# Altium integrated library Actel RTAX.IntLib: 140 symbols (part 12 of 42)
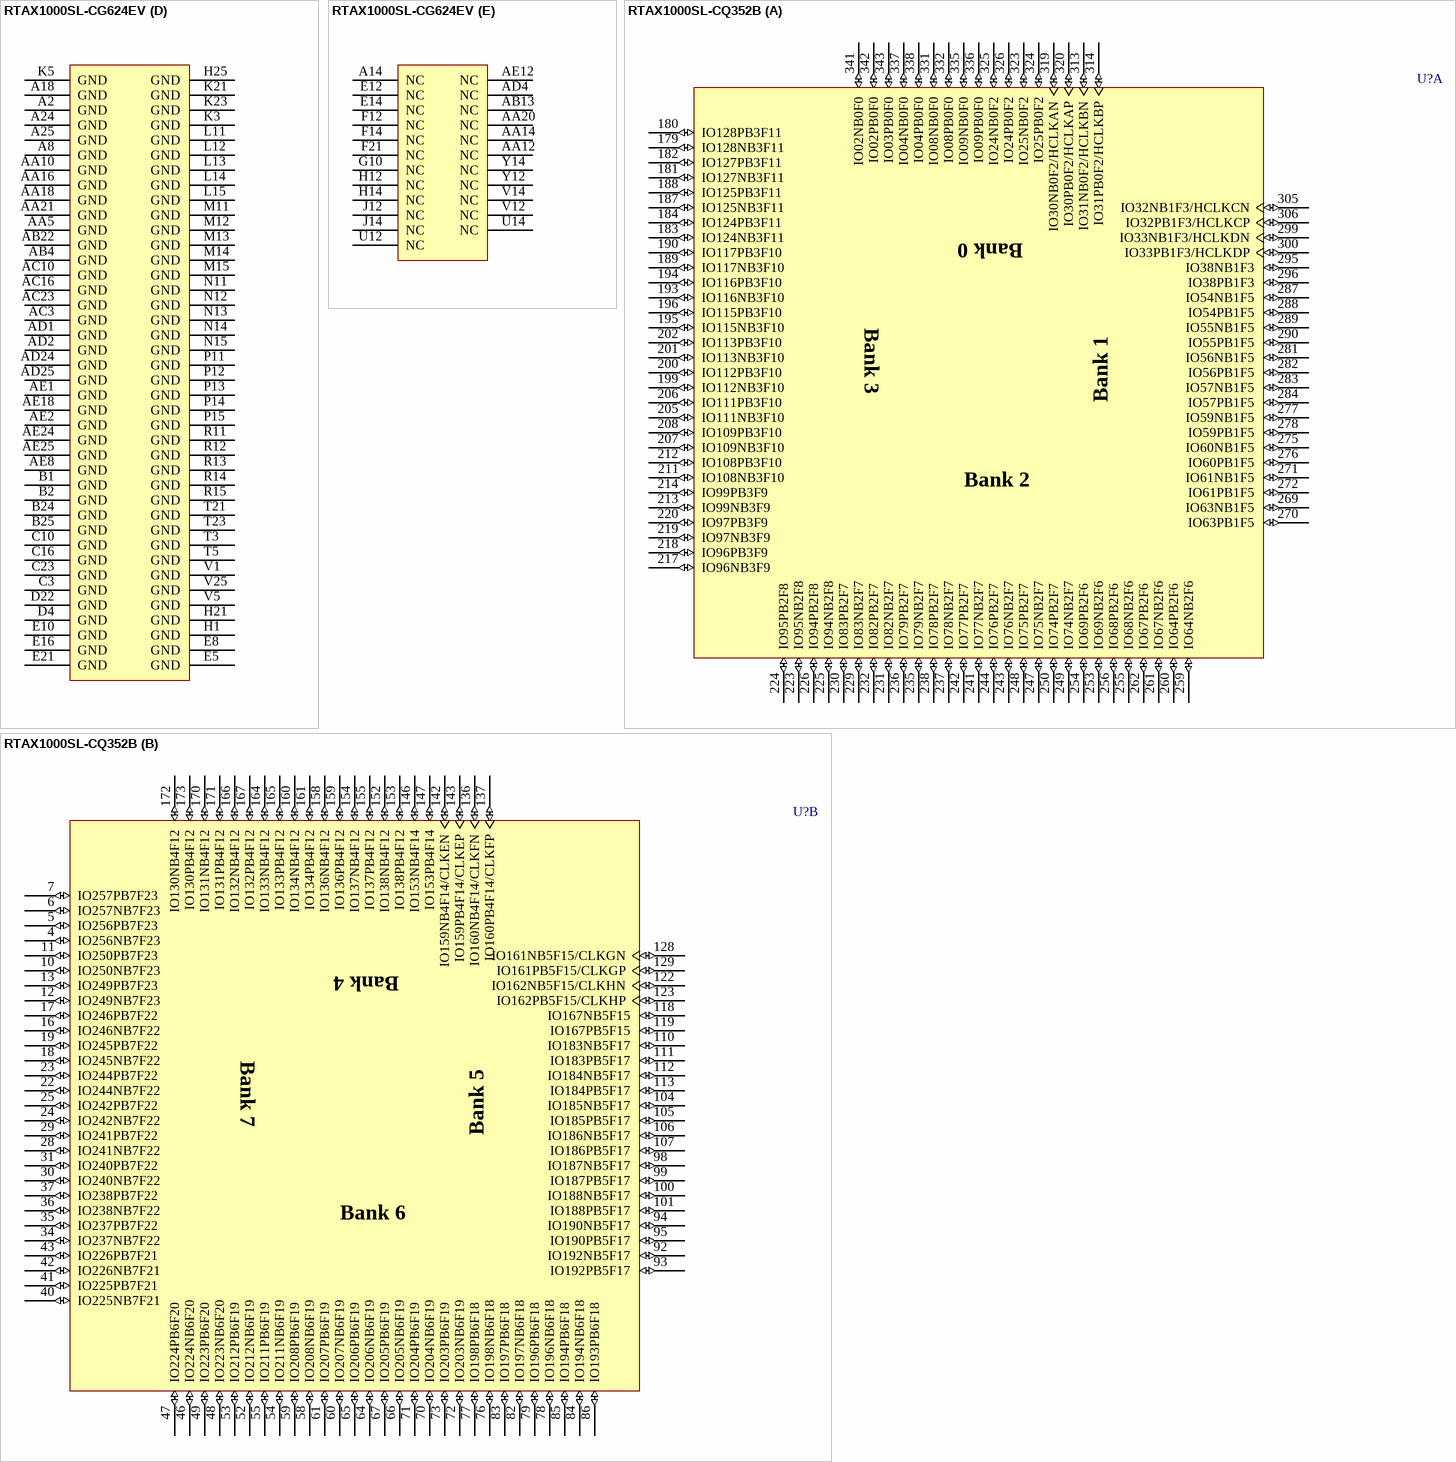
[diagram p410: symbols RTAX1000SL-CG624EV to RTAX1000SL-CQ352B]

## RTAX1000SL-CG624EV
designator U?
RTAX-SL RadTolerant FPGA, 1 Million Equivalent System Gates, Low-Power, 624-Pin CCGA, Speed Grade Standard, Class V; DatasheetVersion: v5.4, May-2009; PackageVersion: ver11.2, Nov-2009; PackageReference: CG624; PackageDescription: 624-Pin Ceramic Column Grid Array 1.27 mm Pitch; Code_JEDEC: MO-158-BE-01; ComponentLink1Description: Manufacturer URL; ComponentLink1URL: http://www.actel.com/; ComponentLink2Description: RTAX-S/SL RadTolerant Datasheet; ComponentLink2URL: http://www.actel.com/documents/RTAXS_DS.pdf; ComponentLink3Description: Package Mechanical Drawings; ComponentLink3URL: http://www.actel.com/documents/PckgMechDrwngs.pdf; ComponentLink4Description: RTAX-S/SL RadTolerant Documents; ComponentLink4URL: http://www.actel.com/products/milaero/rtaxs/docs.aspx
footprint CG624 (CGA, 624-Leads, Body 32.5x32.5mm, Pitch 1.27mm)
part A pins: A4 IO16PB0F1 (io), A5 IO16NB0F1 (io), A6 IO13PB0F1 (io), A7 IO13NB0F1 (io), A9 IO17NB0F1 (io), A10 IO21PB0F1 (io), A11 IO21NB0F1 (io), A15 IO43PB1F4 (io), A16 IO43NB1F4 (io), A17 IO47NB1F4 (io), A19 IO44PB1F4 (io), A20 IO44NB1F4 (io), A21 IO51PB1F4 (io), A22 IO51NB1F4 (io), AA23 IO124PB3F11 (io), AA24 IO116NB3F10 (io), AA25 IO117PB3F10 (io), AB24 IO107NB3F10 (io), AB25 IO117NB3F10 (io), B4 IO12PB0F1 (io), B5 IO12NB0F1 (io), B6 IO07PB0F0 (io), B7 IO15PB0F1 (io), B8 IO27PB0F2 (io), B9 IO17PB0F1 (io), B10 IO20PB0F1 (io), B11 IO20NB0F1 (io), B12 IO25PB0F2 (io), B13 IO33PB1F3/HCLKDP (io), B14 IO33NB1F3/HCLKDN (io), B16 IO45PB1F4 (io), B17 IO45NB1F4 (io), B18 IO35PB1F3 (io), B19 IO49PB1F4 (io), B20 IO49NB1F4 (io), B21 IO53PB1F4 (io), B22 IO53NB1F4 (io), C7 IO09PB0F0 (io), C8 IO14PB0F1 (io), C9 IO14NB0F1 (io), C11 IO27NB0F2 (io), C12 IO31PB0F2/HCLKBP (io), C13 IO31NB0F2/HCLKBN (io), C14 IO39PB1F3 (io), C17 IO35NB1F3 (io), C18 IO48PB1F4 (io), C19 IO48NB1F4 (io), C20 IO52PB1F4 (io), C21 IO52NB1F4 (io), D7 IO24NB0F2 (io), D8 IO04PB0F0 (io), D9 IO11PB0F0 (io), D10 IO11NB0F0 (io), D11 IO18PB0F1 (io), D12 IO18NB0F1 (io), D14 IO39NB1F3 (io), D15 IO40PB1F3 (io), D16 IO40NB1F3 (io), D17 IO55PB1F5 (io), D18 IO55NB1F5 (io), D19 IO60PB1F5 (io), D20 IO60NB1F5 (io), D24 IO70PB2F6 (io), D25 IO86PB2F8 (io), E7 IO24PB0F2 (io), E9 IO04NB0F0 (io), E11 IO23NB0F2 (io), E15 IO38NB1F3 (io), E17 IO58NB1F5 (io), E18 IO62NB1F5 (io), E23 IO67PB2F6 (io), E24 IO70NB2F6 (io), E25 IO86NB2F8 (io), F7 IO00PB0F0 (io), F8 IO00NB0F0 (io), F9 IO08PB0F0 (io), F10 IO08NB0F0 (io), F11 IO23PB0F2 (io), F15 IO38PB1F3 (io), F16 IO41NB1F4 (io), F17 IO58PB1F5 (io), F18 IO62PB1F5 (io), F19 IO56PB1F5 (io), F20 IO56NB1F5 (io), F23 IO67NB2F6 (io), F24 IO88PB2F8 (io), F25 IO90PB2F8 (io), G6 IO02PB0F0 (io), G7 IO02NB0F0 (io), G8 IO06PB0F0 (io), G9 IO06NB0F0 (io), G11 IO26PB0F2 (io), G12 IO30PB0F2/HCLKAP (io), G13 IO30NB0F2/HCLKAN (io), G14 IO32PB1F3/HCLKCP (io), G15 IO32NB1F3/HCLKCN (io), G16 IO34NB1F3 (io), G17 IO46NB1F4 (io), G18 IO63PB1F5 (io), G19 IO63NB1F5 (io), G20 IO42PB1F4 (io), G21 IO42NB1F4 (io), G22 IO64PB2F6 (io), G23 IO71PB2F6 (io), G24 IO88NB2F8 (io), G25 IO90NB2F8 (io), H7 IO10PB0F0 (io), H8 IO10NB0F0 (io), H9 IO22PB0F2 (io), H10 IO22NB0F2 (io), H11 IO26NB0F2 (io), H13 IO37NB1F3 (io), H15 IO36PB1F3 (io), H16 IO34PB1F3 (io), H17 IO46PB1F4 (io), H18 IO36NB1F3 (io), H19 IO50PB1F4 (io), H20 IO50NB1F4 (io), H22 IO74PB2F7 (io), H23 IO71NB2F6 (io), H24 IO92PB2F8 (io), J7 IO29PB0F2 (io), J8 IO29NB0F2 (io), J13 IO28NB0F2 (io), J18 IO54NB1F5 (io), J19 IO54PB1F5 (io), J20 IO65PB2F6 (io), J21 IO65NB2F6 (io), J22 IO74NB2F7 (io), J23 IO93PB2F8 (io), J24 IO92NB2F8 (io), J25 IO89NB2F8 (io), K13 IO28PB0F2 (io), K18 IO68PB2F6 (io), K19 IO72PB2F6 (io), K20 IO66PB2F6 (io), K22 IO77PB2F7 (io), K24 IO87PB2F8 (io), K25 IO91PB2F8 (io), L18 IO68NB2F6 (io), L19 IO72NB2F6 (io), L20 IO80PB2F7 (io), L21 IO80NB2F7 (io), L22 IO77NB2F7 (io), L23 IO66NB2F6 (io), L24 IO87NB2F8 (io), L25 IO91NB2F8 (io), M17 IO64NB2F6 (io), M18 IO78PB2F7 (io), M19 IO78NB2F7 (io), M20 IO84NB2F7 (io), M21 IO84PB2F7 (io), M22 IO83PB2F7 (io), M23 IO75PB2F7 (io), M24 IO94PB2F8 (io), M25 IO95PB2F8 (io), N16 IO76PB2F7 (io), N17 IO76NB2F7 (io), N18 IO79PB2F7 (io), N19 IO79NB2F7 (io), N20 IO97NB3F9 (io), N22 IO83NB2F7 (io), N23 IO75NB2F7 (io), N24 IO94NB2F8 (io), N25 IO95NB2F8 (io), P17 IO82PB2F7 (io), P18 IO82NB2F7 (io), P19 IO98PB3F9 (io), P20 IO98NB3F9 (io), P21 IO99NB3F9 (io), P22 IO101PB3F9 (io), P23 IO105PB3F9 (io), P24 IO97PB3F9 (io), P25 IO108PB3F10 (io), R18 IO96PB3F9 (io), R19 IO106NB3F9 (io), R20 IO106PB3F9 (io), R21 IO118PB3F11 (io), R22 IO101NB3F9 (io), R23 IO105NB3F9 (io), R24 IO112PB3F10 (io), R25 IO108NB3F10 (io), T18 IO96NB3F9 (io), T19 IO102PB3F9 (io), T20 IO118NB3F11 (io), T22 IO100NB3F9 (io), T24 IO112NB3F10 (io), T25 IO109PB3F10 (io), U19 IO102NB3F9 (io), U20 IO104PB3F9 (io), U21 IO126PB3F11 (io), U22 IO122PB3F11 (io), U23 IO110PB3F10 (io), U24 IO110NB3F10 (io), U25 IO109NB3F10 (io), V20 IO104NB3F9 (io), V21 IO126NB3F11 (io), V22 IO122NB3F11 (io), V23 IO114NB3F10 (io), V24 IO114PB3F10 (io), W22 IO120NB3F11 (io), W23 IO120PB3F11 (io), W24 IO100PB3F9 (io), W25 IO113PB3F10 (io), Y21 IO128PB3F11 (io), Y22 IO128NB3F11 (io), Y23 IO124NB3F11 (io), Y24 IO116PB3F10 (io), Y25 IO113NB3F10 (io)
part B pins: AA1 IO204NB6F19 (io), AA2 IO209NB6F19 (io), AA3 IO194PB6F18 (io), AA6 IO168PB5F15 (io), AA8 IO177NB5F16 (io), AA9 IO187NB5F17 (io), AA11 IO173NB5F16 (io), AA17 IO137PB4F12 (io), AA19 IO139NB4F13 (io), AB1 IO204PB6F19 (io), AB2 IO209PB6F19 (io), AB6 IO168NB5F15 (io), AB7 IO192NB5F17 (io), AB8 IO172NB5F16 (io), AB9 IO184NB5F17 (io), AB10 IO174NB5F16 (io), AB11 IO174PB5F16 (io), AB14 IO156NB4F14 (io), AB15 IO156PB4F14 (io), AB16 IO152NB4F14 (io), AB17 IO143NB4F13 (io), AB18 IO138PB4F12 (io), AB19 IO138NB4F12 (io), AC5 IO191NB5F17 (io), AC6 IO191PB5F17 (io), AC7 IO192PB5F17 (io), AC8 IO172PB5F16 (io), AC9 IO175NB5F16 (io), AC12 IO162NB5F15/CLKHN (io), AC13 IO160NB4F14/CLKFN (io), AC14 IO149PB4F13 (io), AC15 IO158NB4F14 (io), AC17 IO143PB4F13 (io), AC18 IO157PB4F14 (io), AC19 IO158PB4F14 (io), AC20 IO140NB4F13 (io), AC21 IO140PB4F13 (io), AD5 IO189NB5F17 (io), AD6 IO189PB5F17 (io), AD7 IO183NB5F17 (io), AD8 IO183PB5F17 (io), AD9 IO181NB5F17 (io), AD10 IO181PB5F17 (io), AD12 IO162PB5F15/CLKHP (io), AD13 IO160PB4F14/CLKFP (io), AD14 IO149NB4F13 (io), AD15 IO147NB4F13 (io), AD16 IO147PB4F13 (io), AD17 IO141NB4F13 (io), AD18 IO141PB4F13 (io), AD19 IO146NB4F13 (io), AD20 IO146PB4F13 (io), AD21 IO142NB4F13 (io), AD22 IO142PB4F13 (io), AE4 IO186NB5F17 (io), AE5 IO186PB5F17 (io), AE6 IO185NB5F17 (io), AE7 IO185PB5F17 (io), AE9 IO175PB5F16 (io), AE10 IO182NB5F17 (io), AE11 IO182PB5F17 (io), AE14 IO157NB4F14 (io), AE15 IO145NB4F13 (io), AE16 IO145PB4F13 (io), AE19 IO150NB4F13 (io), AE20 IO150PB4F13 (io), AE21 IO148PB4F13 (io), AE22 IO144PB4F13 (io), D1 IO234NB7F21 (io), D2 IO248NB7F23 (io), E1 IO234PB7F21 (io), E2 IO231NB7F21 (io), E3 IO246PB7F22 (io), F1 IO232NB7F21 (io), F2 IO231PB7F21 (io), F3 IO246NB7F22 (io), G1 IO232PB7F21 (io), G2 IO226PB7F21 (io), G3 IO249PB7F23 (io), G4 IO249NB7F23 (io), H2 IO227PB7F21 (io), H3 IO227NB7F21 (io), H4 IO253NB7F23 (io), H5 IO257NB7F23 (io), H6 IO257PB7F23 (io), J1 IO225PB7F21 (io), J2 IO225NB7F21 (io), J3 IO242NB7F22 (io), J4 IO253PB7F23 (io), J5 IO255PB7F23 (io), J6 IO255NB7F23 (io), K1 IO230NB7F21 (io), K2 IO229NB7F21 (io), K4 IO235NB7F21 (io), K6 IO247PB7F23 (io), K7 IO247NB7F23 (io), K8 IO245NB7F22 (io), L1 IO230PB7F21 (io), L2 IO229PB7F21 (io), L3 IO233NB7F21 (io), L4 IO235PB7F21 (io), L5 IO239PB7F22 (io), L6 IO239NB7F22 (io), L7 IO241NB7F22 (io), L8 IO245PB7F22 (io), M1 IO211NB6F19 (io), M2 IO223NB6F20 (io), M3 IO233PB7F21 (io), M4 IO240NB7F22 (io), M5 IO238NB7F22 (io), M6 IO236NB7F22 (io), M7 IO241PB7F22 (io), M8 IO243PB7F22 (io), M9 IO243NB7F22 (io), N1 IO211PB6F19 (io), N2 IO223PB6F20 (io), N3 IO224NB6F20 (io), N4 IO221NB6F20 (io), N6 IO244PB7F22 (io), N7 IO237PB7F22 (io), N8 IO237NB7F22 (io), N9 IO251PB7F23 (io), N10 IO251NB7F23 (io), P1 IO212NB6F19 (io), P2 IO220NB6F20 (io), P3 IO224PB6F20 (io), P4 IO221PB6F20 (io), P5 IO210NB6F19 (io), P6 IO198NB6F18 (io), P7 IO217NB6F20 (io), P8 IO216NB6F20 (io), P9 IO244NB7F22 (io), R1 IO212PB6F19 (io), R2 IO220PB6F20 (io), R3 IO216PB6F20 (io), R4 IO219NB6F20 (io), R5 IO197NB6F18 (io), R6 IO205NB6F19 (io), R7 IO217PB6F20 (io), R8 IO213NB6F19 (io), T1 IO208NB6F19 (io), T2 IO207NB6F19 (io), T4 IO219PB6F20 (io), T6 IO205PB6F19 (io), T7 IO201NB6F18 (io), T8 IO213PB6F19 (io), T13 IO164PB5F15 (io), U1 IO208PB6F19 (io), U2 IO207PB6F19 (io), U3 IO197PB6F18 (io), U4 IO215NB6F20 (io), U5 IO193PB6F18 (io), U6 IO193NB6F18 (io), U7 IO201PB6F18 (io), U8 IO188NB5F17 (io), U13 IO165NB5F15 (io), U18 IO139PB4F13 (io), V2 IO202NB6F18 (io), V3 IO200NB6F18 (io), V4 IO215PB6F20 (io), V6 IO195NB6F18 (io), V7 IO169PB5F15 (io), V8 IO169NB5F15 (io), V9 IO163NB5F15 (io), V10 IO163PB5F15 (io), V11 IO164NB5F15 (io), V13 IO165PB5F15 (io), V15 IO155NB4F14 (io), V16 IO155PB4F14 (io), V17 IO151NB4F13 (io), V18 IO135PB4F12 (io), V19 IO131NB4F12 (io), W1 IO206NB6F19 (io), W2 IO203NB6F19 (io), W3 IO200PB6F18 (io), W4 IO195PB6F18 (io), W5 IO199PB6F18 (io), W6 IO178PB5F16 (io), W7 IO180PB5F16 (io), W8 IO171NB5F16 (io), W9 IO171PB5F16 (io), W10 IO179PB5F16 (io), W11 IO167NB5F15 (io), W12 IO167PB5F15 (io), W13 IO161NB5F15/CLKGN (io), W14 IO159NB4F14/CLKEN (io), W15 IO159PB4F14/CLKEP (io), W16 IO152PB4F14 (io), W17 IO151PB4F13 (io), W18 IO135NB4F12 (io), W19 IO131PB4F12 (io), W20 IO129NB4F12 (io), Y1 IO206PB6F19 (io), Y2 IO203PB6F19 (io), Y3 IO194NB6F18 (io), Y5 IO199NB6F18 (io), Y6 IO178NB5F16 (io), Y7 IO180NB5F16 (io), Y8 IO177PB5F16 (io), Y9 IO187PB5F17 (io), Y10 IO179NB5F16 (io), Y11 IO173PB5F16 (io), Y13 IO161PB5F15/CLKGP (io), Y15 IO153NB4F14 (io), Y16 IO153PB4F14 (io), Y17 IO137NB4F12 (io), Y18 IO133NB4F12 (io), Y19 IO133PB4F12 (io), Y20 IO129PB4F12 (io)
part C pins: A3 VCCIB0 (power), A12 VCCDA (power), A13 PRB (out), A23 VCCIB1 (power), AA4 VCCIB6 (power), AA7 VCCDA (power), AA13 VCCDA (power), AA15 VCCDA (power), AA22 VCCIB3 (power), AB3 VCCIB6 (power), AB5 VCCIB5 (power), AB12 PRC (out), AB20 VCCA (power), AB21 VCCIB4 (power), AB23 VCCIB3 (power), AC1 VCCIB6 (power), AC2 VCCIB6 (power), AC4 VCCIB5 (power), AC11 VCCDA (power), AC22 VCCIB4 (power), AC24 VCCIB3 (power), AC25 VCCIB3 (power), AD3 VCCIB5 (power), AD11 VCCDA (power), AD23 VCCIB4 (power), AE3 VCCIB5 (power), AE13 PRD (out), AE17 VCCDA (power), AE23 VCCIB4 (power), B3 VCCIB0 (power), B15 VCCDA (power), B23 VCCIB1 (power), C1 VCCIB7 (power), C2 VCCIB7 (power), C4 VCCIB0 (power), C5 TDI (in), C6 VCCDA (power), C15 VCCDA (power), C22 VCCIB1 (power), C24 VCCIB2 (power), C25 VCCIB2 (power), D3 VCCIB7 (power), D5 VCCIB0 (power), D6 TMS (in), D13 VCCDA (power), D21 VCCIB1 (power), D23 VCCIB2 (power), E4 VCCIB7 (power), E6 ~{TRST} (in), E13 VCCDA (power), E19 VCCDA (power), E20 VPUMP (power), E22 VCCIB2 (power), F4 VCCA (power), F5 TCK (in), F6 TDO (hiz), F13 PRA (out), F22 VCCA (power), G5 VCCDA (power), J9 VCCA (power), J10 VCCIB0 (power), J11 VCCIB0 (power), J15 VCCIB1 (power), J16 VCCIB1 (power), J17 VCCA (power), K9 VCCIB7 (power), K10 VCCA (power), K11 VCCA (power), K12 VCCIB0 (power), K14 VCCIB1 (power), K15 VCCA (power), K16 VCCA (power), K17 VCCIB2 (power), L9 VCCIB7 (power), L10 VCCA (power), L16 VCCA (power), L17 VCCIB2 (power), M10 VCCIB7 (power), M16 VCCIB2 (power), N5 VCCDA (power), N21 VCCDA (power), P10 VCCIB6 (power), P16 VCCIB3 (power), R9 VCCIB6 (power), R10 VCCA (power), R16 VCCA (power), R17 VCCIB3 (power), T9 VCCIB6 (power), T10 VCCA (power), T11 VCCA (power), T12 VCCIB5 (power), T14 VCCIB4 (power), T15 VCCA (power), T16 VCCA (power), T17 VCCIB3 (power), U9 VCCA (power), U10 VCCIB5 (power), U11 VCCIB5 (power), U15 VCCIB4 (power), U16 VCCIB4 (power), U17 VCCA (power), W21 VCCDA (power), Y4 VCCA (power)
part D pins: A2 GND (power), A8 GND (power), A18 GND (power), A24 GND (power), A25 GND (power), AA5 GND (power), AA10 GND (power), AA16 GND (power), AA18 GND (power), AA21 GND (power), AB4 GND (power), AB22 GND (power), AC3 GND (power), AC10 GND (power), AC16 GND (power), AC23 GND (power), AD1 GND (power), AD2 GND (power), AD24 GND (power), AD25 GND (power), AE1 GND (power), AE2 GND (power), AE8 GND (power), AE18 GND (power), AE24 GND (power), AE25 GND (power), B1 GND (power), B2 GND (power), B24 GND (power), B25 GND (power), C3 GND (power), C10 GND (power), C16 GND (power), C23 GND (power), D4 GND (power), D22 GND (power), E5 GND (power), E8 GND (power), E10 GND (power), E16 GND (power), E21 GND (power), H1 GND (power), H21 GND (power), H25 GND (power), K3 GND (power), K5 GND (power), K21 GND (power), K23 GND (power), L11 GND (power), L12 GND (power), L13 GND (power), L14 GND (power), L15 GND (power), M11 GND (power), M12 GND (power), M13 GND (power), M14 GND (power), M15 GND (power), N11 GND (power), N12 GND (power), N13 GND (power), N14 GND (power), N15 GND (power), P11 GND (power), P12 GND (power), P13 GND (power), P14 GND (power), P15 GND (power), R11 GND (power), R12 GND (power), R13 GND (power), R14 GND (power), R15 GND (power), T3 GND (power), T5 GND (power), T21 GND (power), T23 GND (power), V1 GND (power), V5 GND (power), V25 GND (power)
part E pins: A14 NC, AA12 NC, AA14 NC, AA20 NC, AB13 NC, AD4 NC, AE12 NC, E12 NC, E14 NC, F12 NC, F14 NC, F21 NC, G10 NC, H12 NC, H14 NC, J12 NC, J14 NC, U12 NC, U14 NC, V12 NC, V14 NC, Y12 NC, Y14 NC
part A text: Bank 0; Bank 3; Bank 1; Bank 2
part B text: Bank 4; Bank 7; Bank 5; Bank 6

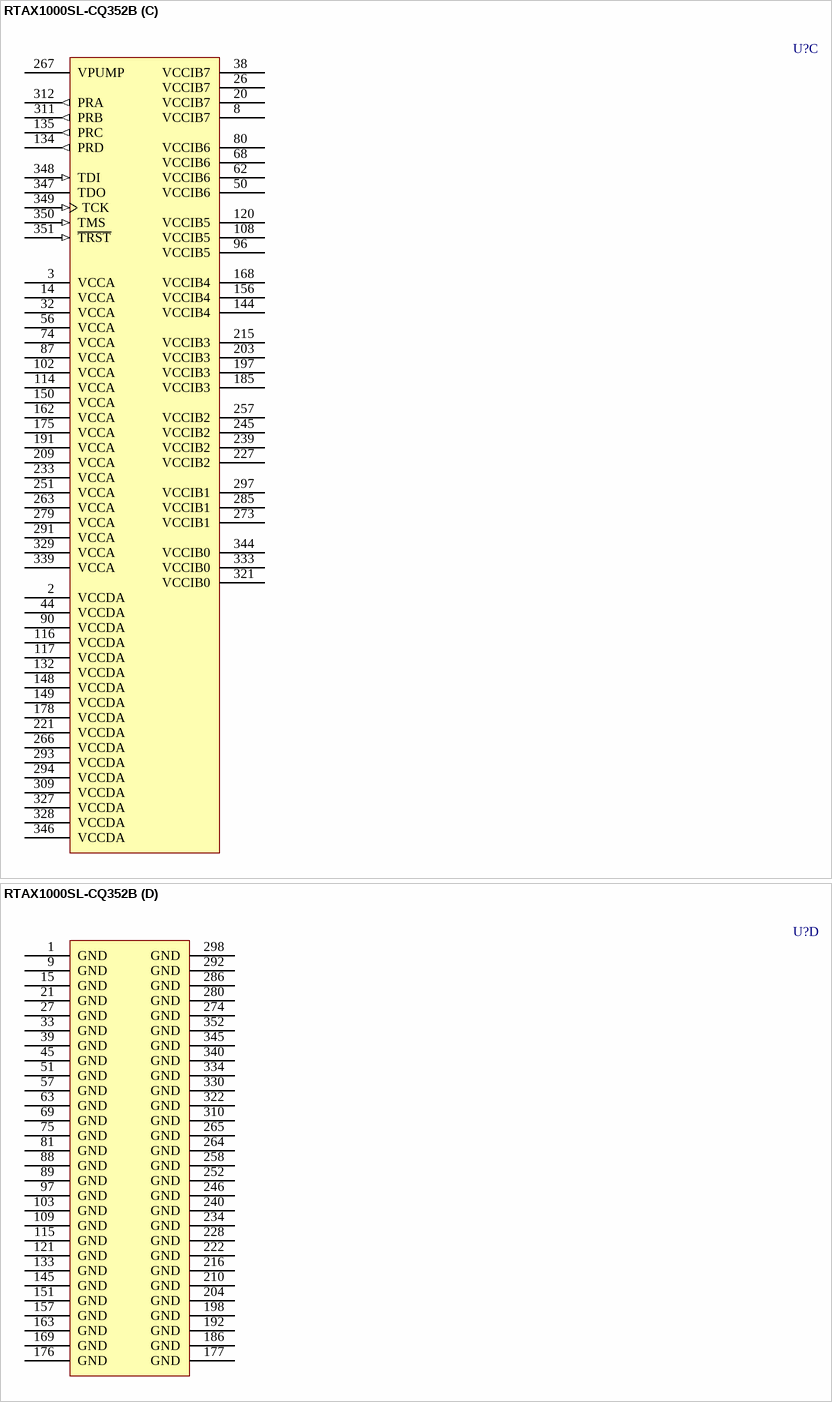
[diagram p113: symbol RTAX1000SL-CQ352B]

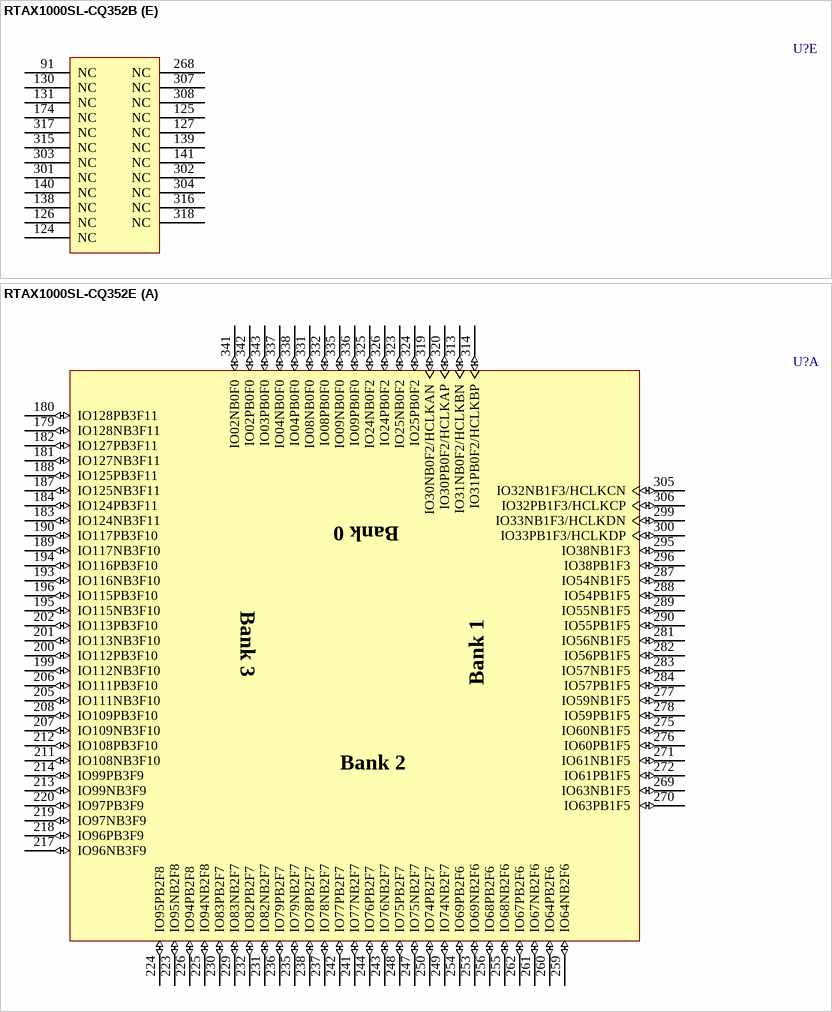
[diagram p114: symbols RTAX1000SL-CQ352B to RTAX1000SL-CQ352E]

## RTAX1000SL-CQ352B
designator U?
RTAX-SL RadTolerant FPGA, 1 Million Equivalent System Gates, Low-Power, 352-Pin CQFP, Speed Grade Standard, MIL-STD-883 Class B; DatasheetVersion: v5.4, May-2009; PackageVersion: ver11.2, Nov-2009; PackageReference: CQ352; PackageDescription: 352-Pin Ceramic Quad Flat Pack (CQFP), Cavity Up without Heat Sink; Code_JEDEC: MO-134-AE; ComponentLink1Description: Manufacturer URL; ComponentLink1URL: http://www.actel.com/; ComponentLink2Description: RTAX-S/SL RadTolerant Datasheet; ComponentLink2URL: http://www.actel.com/documents/RTAXS_DS.pdf; ComponentLink3Description: Package Mechanical Drawings; ComponentLink3URL: http://www.actel.com/documents/PckgMechDrwngs.pdf; ComponentLink4Description: RTAX-S/SL RadTolerant Documents; ComponentLink4URL: http://www.actel.com/products/milaero/rtaxs/docs.aspx
footprint CQ352_N (CQFP, 352-Leads, Body 48x48mm; Pitch 0.5mm, Gullwing Leadform, IPC Medium Density)
footprint CQ352_L (CQFP, 352-Leads, Body 48x48mm; Pitch 0.5mm, Gullwing Leadform, IPC High Density)
footprint CQ352_M (CQFP, 352-Leads, Body 48x48mm; Pitch 0.5mm, Gullwing Leadform, IPC Low Density)
part A pins: 179 IO128NB3F11 (io), 180 IO128PB3F11 (io), 181 IO127NB3F11 (io), 182 IO127PB3F11 (io), 183 IO124NB3F11 (io), 184 IO124PB3F11 (io), 187 IO125NB3F11 (io), 188 IO125PB3F11 (io), 189 IO117NB3F10 (io), 190 IO117PB3F10 (io), 193 IO116NB3F10 (io), 194 IO116PB3F10 (io), 195 IO115NB3F10 (io), 196 IO115PB3F10 (io), 199 IO112NB3F10 (io), 200 IO112PB3F10 (io), 201 IO113NB3F10 (io), 202 IO113PB3F10 (io), 205 IO111NB3F10 (io), 206 IO111PB3F10 (io), 207 IO109NB3F10 (io), 208 IO109PB3F10 (io), 211 IO108NB3F10 (io), 212 IO108PB3F10 (io), 213 IO99NB3F9 (io), 214 IO99PB3F9 (io), 217 IO96NB3F9 (io), 218 IO96PB3F9 (io), 219 IO97NB3F9 (io), 220 IO97PB3F9 (io), 223 IO95NB2F8 (io), 224 IO95PB2F8 (io), 225 IO94NB2F8 (io), 226 IO94PB2F8 (io), 229 IO83NB2F7 (io), 230 IO83PB2F7 (io), 231 IO82NB2F7 (io), 232 IO82PB2F7 (io), 235 IO79NB2F7 (io), 236 IO79PB2F7 (io), 237 IO78NB2F7 (io), 238 IO78PB2F7 (io), 241 IO77NB2F7 (io), 242 IO77PB2F7 (io), 243 IO76NB2F7 (io), 244 IO76PB2F7 (io), 247 IO75NB2F7 (io), 248 IO75PB2F7 (io), 249 IO74NB2F7 (io), 250 IO74PB2F7 (io), 253 IO69NB2F6 (io), 254 IO69PB2F6 (io), 255 IO68NB2F6 (io), 256 IO68PB2F6 (io), 259 IO64NB2F6 (io), 260 IO64PB2F6 (io), 261 IO67NB2F6 (io), 262 IO67PB2F6 (io), 269 IO63NB1F5 (io), 270 IO63PB1F5 (io), 271 IO61NB1F5 (io), 272 IO61PB1F5 (io), 275 IO60NB1F5 (io), 276 IO60PB1F5 (io), 277 IO59NB1F5 (io), 278 IO59PB1F5 (io), 281 IO56NB1F5 (io), 282 IO56PB1F5 (io), 283 IO57NB1F5 (io), 284 IO57PB1F5 (io), 287 IO54NB1F5 (io), 288 IO54PB1F5 (io), 289 IO55NB1F5 (io), 290 IO55PB1F5 (io), 295 IO38NB1F3 (io), 296 IO38PB1F3 (io), 299 IO33NB1F3/HCLKDN (io), 300 IO33PB1F3/HCLKDP (io), 305 IO32NB1F3/HCLKCN (io), 306 IO32PB1F3/HCLKCP (io), 313 IO31NB0F2/HCLKBN (io), 314 IO31PB0F2/HCLKBP (io), 319 IO30NB0F2/HCLKAN (io), 320 IO30PB0F2/HCLKAP (io), 323 IO25NB0F2 (io), 324 IO25PB0F2 (io), 325 IO24NB0F2 (io), 326 IO24PB0F2 (io), 331 IO08NB0F0 (io), 332 IO08PB0F0 (io), 335 IO09NB0F0 (io), 336 IO09PB0F0 (io), 337 IO04NB0F0 (io), 338 IO04PB0F0 (io), 341 IO02NB0F0 (io), 342 IO02PB0F0 (io), 343 IO03PB0F0 (io)
part B pins: 4 IO256NB7F23 (io), 5 IO256PB7F23 (io), 6 IO257NB7F23 (io), 7 IO257PB7F23 (io), 10 IO250NB7F23 (io), 11 IO250PB7F23 (io), 12 IO249NB7F23 (io), 13 IO249PB7F23 (io), 16 IO246NB7F22 (io), 17 IO246PB7F22 (io), 18 IO245NB7F22 (io), 19 IO245PB7F22 (io), 22 IO244NB7F22 (io), 23 IO244PB7F22 (io), 24 IO242NB7F22 (io), 25 IO242PB7F22 (io), 28 IO241NB7F22 (io), 29 IO241PB7F22 (io), 30 IO240NB7F22 (io), 31 IO240PB7F22 (io), 34 IO237NB7F22 (io), 35 IO237PB7F22 (io), 36 IO238NB7F22 (io), 37 IO238PB7F22 (io), 40 IO225NB7F21 (io), 41 IO225PB7F21 (io), 42 IO226NB7F21 (io), 43 IO226PB7F21 (io), 46 IO224NB6F20 (io), 47 IO224PB6F20 (io), 48 IO223NB6F20 (io), 49 IO223PB6F20 (io), 52 IO212NB6F19 (io), 53 IO212PB6F19 (io), 54 IO211NB6F19 (io), 55 IO211PB6F19 (io), 58 IO208NB6F19 (io), 59 IO208PB6F19 (io), 60 IO207NB6F19 (io), 61 IO207PB6F19 (io), 64 IO206NB6F19 (io), 65 IO206PB6F19 (io), 66 IO205NB6F19 (io), 67 IO205PB6F19 (io), 70 IO204NB6F19 (io), 71 IO204PB6F19 (io), 72 IO203NB6F19 (io), 73 IO203PB6F19 (io), 76 IO198NB6F18 (io), 77 IO198PB6F18 (io), 78 IO196NB6F18 (io), 79 IO196PB6F18 (io), 82 IO197NB6F18 (io), 83 IO197PB6F18 (io), 84 IO194NB6F18 (io), 85 IO194PB6F18 (io), 86 IO193PB6F18 (io), 92 IO192NB5F17 (io), 93 IO192PB5F17 (io), 94 IO190NB5F17 (io), 95 IO190PB5F17 (io), 98 IO187NB5F17 (io), 99 IO187PB5F17 (io), 100 IO188NB5F17 (io), 101 IO188PB5F17 (io), 104 IO185NB5F17 (io), 105 IO185PB5F17 (io), 106 IO186NB5F17 (io), 107 IO186PB5F17 (io), 110 IO183NB5F17 (io), 111 IO183PB5F17 (io), 112 IO184NB5F17 (io), 113 IO184PB5F17 (io), 118 IO167NB5F15 (io), 119 IO167PB5F15 (io), 122 IO162NB5F15/CLKHN (io), 123 IO162PB5F15/CLKHP (io), 128 IO161NB5F15/CLKGN (io), 129 IO161PB5F15/CLKGP (io), 136 IO160NB4F14/CLKFN (io), 137 IO160PB4F14/CLKFP (io), 142 IO159NB4F14/CLKEN (io), 143 IO159PB4F14/CLKEP (io), 146 IO153NB4F14 (io), 147 IO153PB4F14 (io), 152 IO138NB4F12 (io), 153 IO138PB4F12 (io), 154 IO137NB4F12 (io), 155 IO137PB4F12 (io), 158 IO136NB4F12 (io), 159 IO136PB4F12 (io), 160 IO134NB4F12 (io), 161 IO134PB4F12 (io), 164 IO133NB4F12 (io), 165 IO133PB4F12 (io), 166 IO132NB4F12 (io), 167 IO132PB4F12 (io), 170 IO131NB4F12 (io), 171 IO131PB4F12 (io), 172 IO130NB4F12 (io), 173 IO130PB4F12 (io)
part C pins: 2 VCCDA (power), 3 VCCA (power), 8 VCCIB7 (power), 14 VCCA (power), 20 VCCIB7 (power), 26 VCCIB7 (power), 32 VCCA (power), 38 VCCIB7 (power), 44 VCCDA (power), 50 VCCIB6 (power), 56 VCCA (power), 62 VCCIB6 (power), 68 VCCIB6 (power), 74 VCCA (power), 80 VCCIB6 (power), 87 VCCA (power), 90 VCCDA (power), 96 VCCIB5 (power), 102 VCCA (power), 108 VCCIB5 (power), 114 VCCA (power), 116 VCCDA (power), 117 VCCDA (power), 120 VCCIB5 (power), 132 VCCDA (power), 134 PRD (out), 135 PRC (out), 144 VCCIB4 (power), 148 VCCDA (power), 149 VCCDA (power), 150 VCCA (power), 156 VCCIB4 (power), 162 VCCA (power), 168 VCCIB4 (power), 175 VCCA (power), 178 VCCDA (power), 185 VCCIB3 (power), 191 VCCA (power), 197 VCCIB3 (power), 203 VCCIB3 (power), 209 VCCA (power), 215 VCCIB3 (power), 221 VCCDA (power), 227 VCCIB2 (power), 233 VCCA (power), 239 VCCIB2 (power), 245 VCCIB2 (power), 251 VCCA (power), 257 VCCIB2 (power), 263 VCCA (power), 266 VCCDA (power), 267 VPUMP (power), 273 VCCIB1 (power), 279 VCCA (power), 285 VCCIB1 (power), 291 VCCA (power), 293 VCCDA (power), 294 VCCDA (power), 297 VCCIB1 (power), 309 VCCDA (power), 311 PRB (out), 312 PRA (out), 321 VCCIB0 (power), 327 VCCDA (power), 328 VCCDA (power), 329 VCCA (power), 333 VCCIB0 (power), 339 VCCA (power), 344 VCCIB0 (power), 346 VCCDA (power), 347 TDO (hiz), 348 TDI (in), 349 TCK (in), 350 TMS (in), 351 ~{TRST} (in)
part D pins: 1 GND (power), 9 GND (power), 15 GND (power), 21 GND (power), 27 GND (power), 33 GND (power), 39 GND (power), 45 GND (power), 51 GND (power), 57 GND (power), 63 GND (power), 69 GND (power), 75 GND (power), 81 GND (power), 88 GND (power), 89 GND (power), 97 GND (power), 103 GND (power), 109 GND (power), 115 GND (power), 121 GND (power), 133 GND (power), 145 GND (power), 151 GND (power), 157 GND (power), 163 GND (power), 169 GND (power), 176 GND (power), 177 GND (power), 186 GND (power), 192 GND (power), 198 GND (power), 204 GND (power), 210 GND (power), 216 GND (power), 222 GND (power), 228 GND (power), 234 GND (power), 240 GND (power), 246 GND (power), 252 GND (power), 258 GND (power), 264 GND (power), 265 GND (power), 274 GND (power), 280 GND (power), 286 GND (power), 292 GND (power), 298 GND (power), 310 GND (power), 322 GND (power), 330 GND (power), 334 GND (power), 340 GND (power), 345 GND (power), 352 GND (power)
part E pins: 91 NC, 124 NC, 125 NC, 126 NC, 127 NC, 130 NC, 131 NC, 138 NC, 139 NC, 140 NC, 141 NC, 174 NC, 268 NC, 301 NC, 302 NC, 303 NC, 304 NC, 307 NC, 308 NC, 315 NC, 316 NC, 317 NC, 318 NC
part A text: Bank 0; Bank 3; Bank 1; Bank 2
part B text: Bank 4; Bank 7; Bank 5; Bank 6

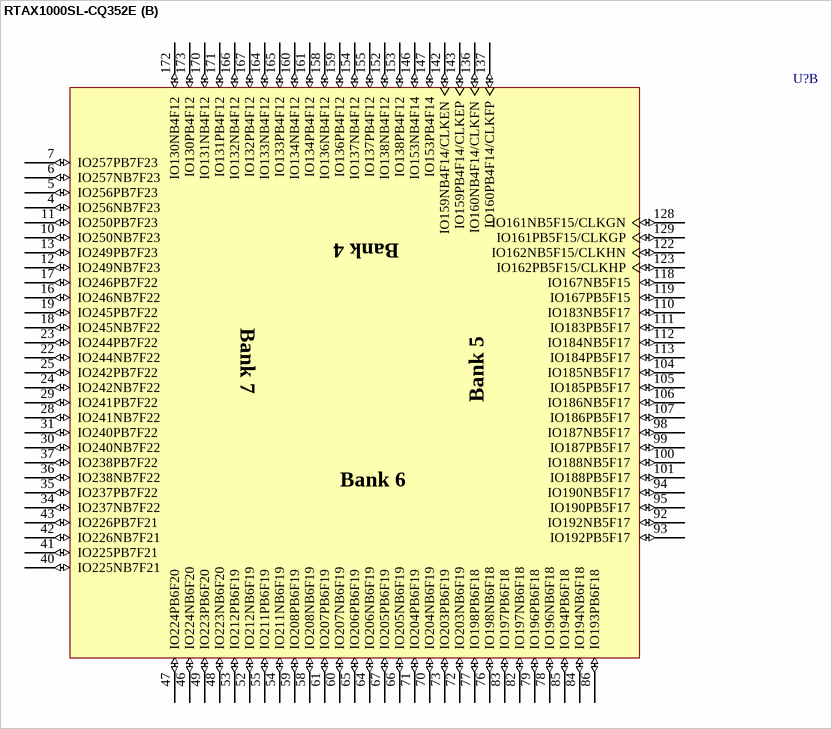
[diagram p115: symbol RTAX1000SL-CQ352E]

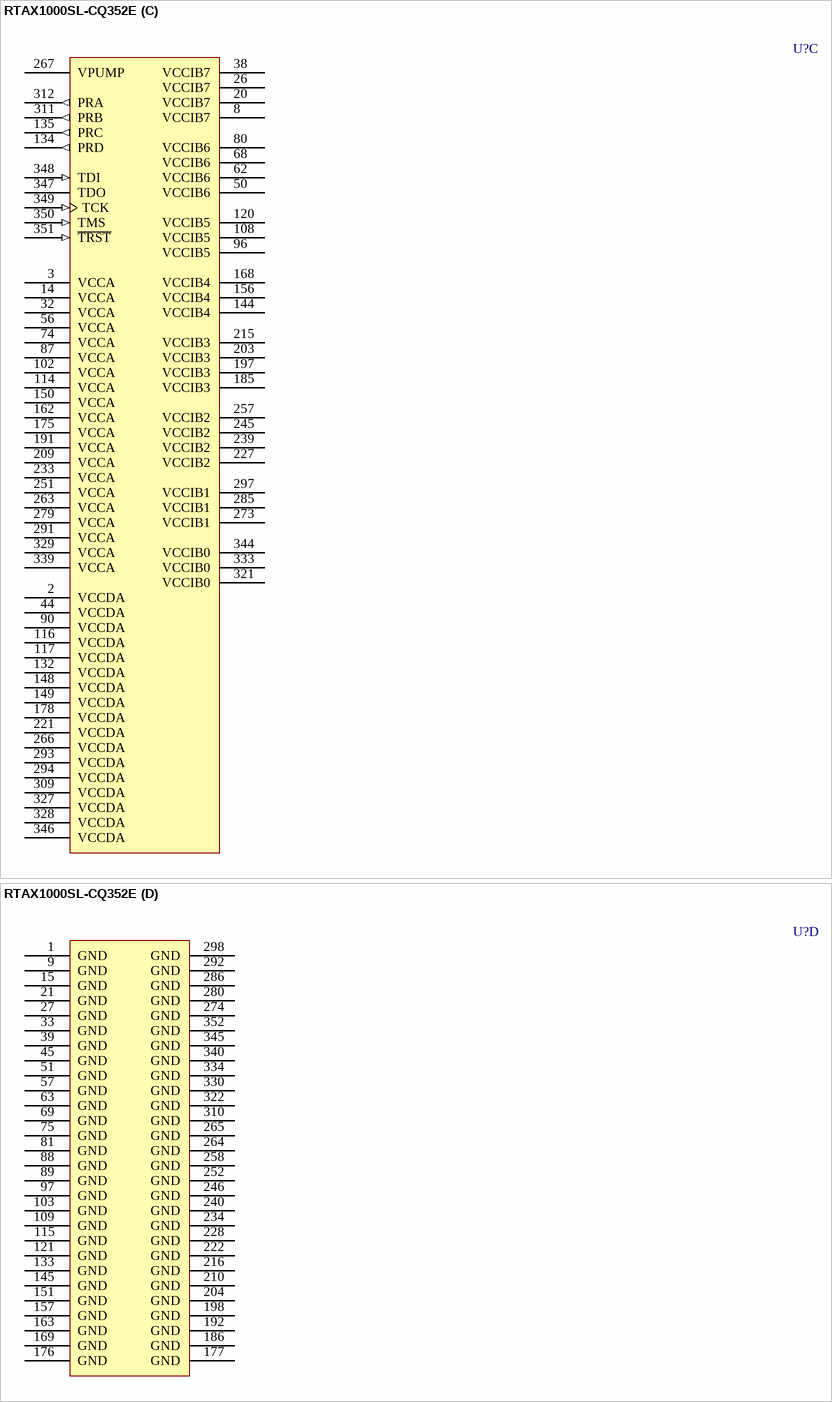
[diagram p116: symbol RTAX1000SL-CQ352E]

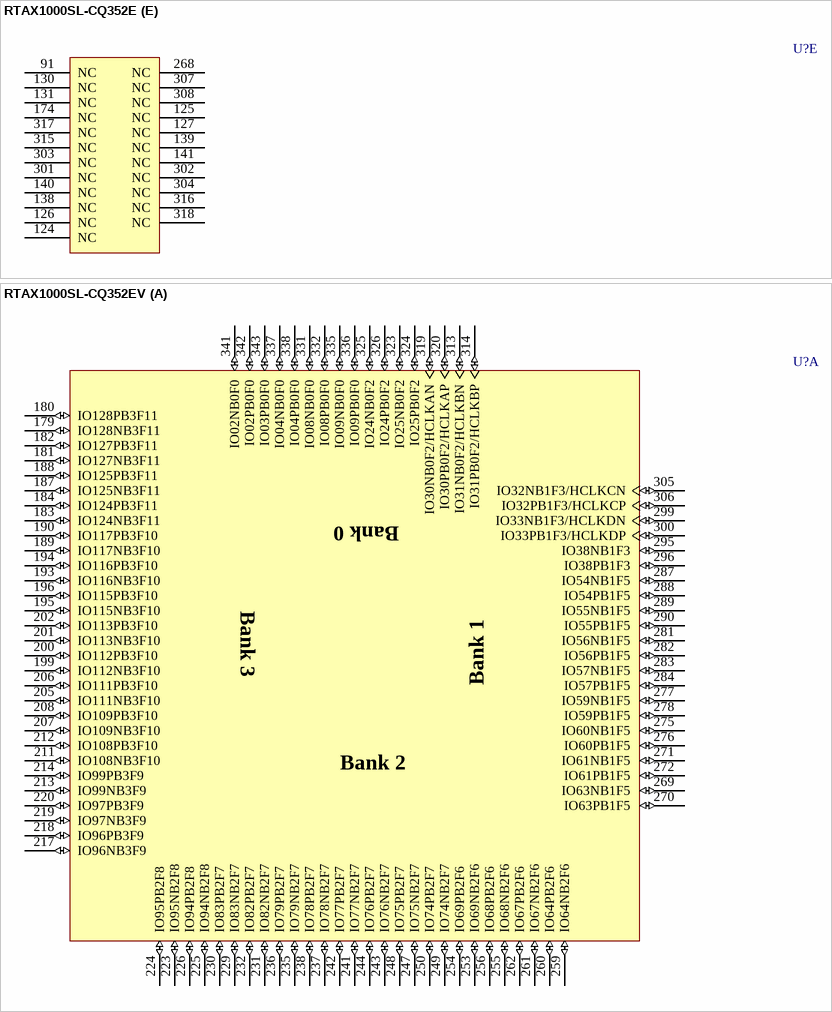
[diagram p117: symbols RTAX1000SL-CQ352E to RTAX1000SL-CQ352EV]

## RTAX1000SL-CQ352E
designator U?
RTAX-SL RadTolerant FPGA, 1 Million Equivalent System Gates, Low-Power, 352-Pin CQFP, Speed Grade Standard, E-Flow (Space Level Flow); DatasheetVersion: v5.4, May-2009; PackageVersion: ver11.2, Nov-2009; PackageReference: CQ352; PackageDescription: 352-Pin Ceramic Quad Flat Pack (CQFP), Cavity Up without Heat Sink; Code_JEDEC: MO-134-AE; ComponentLink1Description: Manufacturer URL; ComponentLink1URL: http://www.actel.com/; ComponentLink2Description: RTAX-S/SL RadTolerant Datasheet; ComponentLink2URL: http://www.actel.com/documents/RTAXS_DS.pdf; ComponentLink3Description: Package Mechanical Drawings; ComponentLink3URL: http://www.actel.com/documents/PckgMechDrwngs.pdf; ComponentLink4Description: RTAX-S/SL RadTolerant Documents; ComponentLink4URL: http://www.actel.com/products/milaero/rtaxs/docs.aspx
footprint CQ352_N (CQFP, 352-Leads, Body 48x48mm; Pitch 0.5mm, Gullwing Leadform, IPC Medium Density)
footprint CQ352_L (CQFP, 352-Leads, Body 48x48mm; Pitch 0.5mm, Gullwing Leadform, IPC High Density)
footprint CQ352_M (CQFP, 352-Leads, Body 48x48mm; Pitch 0.5mm, Gullwing Leadform, IPC Low Density)
part A pins: 179 IO128NB3F11 (io), 180 IO128PB3F11 (io), 181 IO127NB3F11 (io), 182 IO127PB3F11 (io), 183 IO124NB3F11 (io), 184 IO124PB3F11 (io), 187 IO125NB3F11 (io), 188 IO125PB3F11 (io), 189 IO117NB3F10 (io), 190 IO117PB3F10 (io), 193 IO116NB3F10 (io), 194 IO116PB3F10 (io), 195 IO115NB3F10 (io), 196 IO115PB3F10 (io), 199 IO112NB3F10 (io), 200 IO112PB3F10 (io), 201 IO113NB3F10 (io), 202 IO113PB3F10 (io), 205 IO111NB3F10 (io), 206 IO111PB3F10 (io), 207 IO109NB3F10 (io), 208 IO109PB3F10 (io), 211 IO108NB3F10 (io), 212 IO108PB3F10 (io), 213 IO99NB3F9 (io), 214 IO99PB3F9 (io), 217 IO96NB3F9 (io), 218 IO96PB3F9 (io), 219 IO97NB3F9 (io), 220 IO97PB3F9 (io), 223 IO95NB2F8 (io), 224 IO95PB2F8 (io), 225 IO94NB2F8 (io), 226 IO94PB2F8 (io), 229 IO83NB2F7 (io), 230 IO83PB2F7 (io), 231 IO82NB2F7 (io), 232 IO82PB2F7 (io), 235 IO79NB2F7 (io), 236 IO79PB2F7 (io), 237 IO78NB2F7 (io), 238 IO78PB2F7 (io), 241 IO77NB2F7 (io), 242 IO77PB2F7 (io), 243 IO76NB2F7 (io), 244 IO76PB2F7 (io), 247 IO75NB2F7 (io), 248 IO75PB2F7 (io), 249 IO74NB2F7 (io), 250 IO74PB2F7 (io), 253 IO69NB2F6 (io), 254 IO69PB2F6 (io), 255 IO68NB2F6 (io), 256 IO68PB2F6 (io), 259 IO64NB2F6 (io), 260 IO64PB2F6 (io), 261 IO67NB2F6 (io), 262 IO67PB2F6 (io), 269 IO63NB1F5 (io), 270 IO63PB1F5 (io), 271 IO61NB1F5 (io), 272 IO61PB1F5 (io), 275 IO60NB1F5 (io), 276 IO60PB1F5 (io), 277 IO59NB1F5 (io), 278 IO59PB1F5 (io), 281 IO56NB1F5 (io), 282 IO56PB1F5 (io), 283 IO57NB1F5 (io), 284 IO57PB1F5 (io), 287 IO54NB1F5 (io), 288 IO54PB1F5 (io), 289 IO55NB1F5 (io), 290 IO55PB1F5 (io), 295 IO38NB1F3 (io), 296 IO38PB1F3 (io), 299 IO33NB1F3/HCLKDN (io), 300 IO33PB1F3/HCLKDP (io), 305 IO32NB1F3/HCLKCN (io), 306 IO32PB1F3/HCLKCP (io), 313 IO31NB0F2/HCLKBN (io), 314 IO31PB0F2/HCLKBP (io), 319 IO30NB0F2/HCLKAN (io), 320 IO30PB0F2/HCLKAP (io), 323 IO25NB0F2 (io), 324 IO25PB0F2 (io), 325 IO24NB0F2 (io), 326 IO24PB0F2 (io), 331 IO08NB0F0 (io), 332 IO08PB0F0 (io), 335 IO09NB0F0 (io), 336 IO09PB0F0 (io), 337 IO04NB0F0 (io), 338 IO04PB0F0 (io), 341 IO02NB0F0 (io), 342 IO02PB0F0 (io), 343 IO03PB0F0 (io)
part B pins: 4 IO256NB7F23 (io), 5 IO256PB7F23 (io), 6 IO257NB7F23 (io), 7 IO257PB7F23 (io), 10 IO250NB7F23 (io), 11 IO250PB7F23 (io), 12 IO249NB7F23 (io), 13 IO249PB7F23 (io), 16 IO246NB7F22 (io), 17 IO246PB7F22 (io), 18 IO245NB7F22 (io), 19 IO245PB7F22 (io), 22 IO244NB7F22 (io), 23 IO244PB7F22 (io), 24 IO242NB7F22 (io), 25 IO242PB7F22 (io), 28 IO241NB7F22 (io), 29 IO241PB7F22 (io), 30 IO240NB7F22 (io), 31 IO240PB7F22 (io), 34 IO237NB7F22 (io), 35 IO237PB7F22 (io), 36 IO238NB7F22 (io), 37 IO238PB7F22 (io), 40 IO225NB7F21 (io), 41 IO225PB7F21 (io), 42 IO226NB7F21 (io), 43 IO226PB7F21 (io), 46 IO224NB6F20 (io), 47 IO224PB6F20 (io), 48 IO223NB6F20 (io), 49 IO223PB6F20 (io), 52 IO212NB6F19 (io), 53 IO212PB6F19 (io), 54 IO211NB6F19 (io), 55 IO211PB6F19 (io), 58 IO208NB6F19 (io), 59 IO208PB6F19 (io), 60 IO207NB6F19 (io), 61 IO207PB6F19 (io), 64 IO206NB6F19 (io), 65 IO206PB6F19 (io), 66 IO205NB6F19 (io), 67 IO205PB6F19 (io), 70 IO204NB6F19 (io), 71 IO204PB6F19 (io), 72 IO203NB6F19 (io), 73 IO203PB6F19 (io), 76 IO198NB6F18 (io), 77 IO198PB6F18 (io), 78 IO196NB6F18 (io), 79 IO196PB6F18 (io), 82 IO197NB6F18 (io), 83 IO197PB6F18 (io), 84 IO194NB6F18 (io), 85 IO194PB6F18 (io), 86 IO193PB6F18 (io), 92 IO192NB5F17 (io), 93 IO192PB5F17 (io), 94 IO190NB5F17 (io), 95 IO190PB5F17 (io), 98 IO187NB5F17 (io), 99 IO187PB5F17 (io), 100 IO188NB5F17 (io), 101 IO188PB5F17 (io), 104 IO185NB5F17 (io), 105 IO185PB5F17 (io), 106 IO186NB5F17 (io), 107 IO186PB5F17 (io), 110 IO183NB5F17 (io), 111 IO183PB5F17 (io), 112 IO184NB5F17 (io), 113 IO184PB5F17 (io), 118 IO167NB5F15 (io), 119 IO167PB5F15 (io), 122 IO162NB5F15/CLKHN (io), 123 IO162PB5F15/CLKHP (io), 128 IO161NB5F15/CLKGN (io), 129 IO161PB5F15/CLKGP (io), 136 IO160NB4F14/CLKFN (io), 137 IO160PB4F14/CLKFP (io), 142 IO159NB4F14/CLKEN (io), 143 IO159PB4F14/CLKEP (io), 146 IO153NB4F14 (io), 147 IO153PB4F14 (io), 152 IO138NB4F12 (io), 153 IO138PB4F12 (io), 154 IO137NB4F12 (io), 155 IO137PB4F12 (io), 158 IO136NB4F12 (io), 159 IO136PB4F12 (io), 160 IO134NB4F12 (io), 161 IO134PB4F12 (io), 164 IO133NB4F12 (io), 165 IO133PB4F12 (io), 166 IO132NB4F12 (io), 167 IO132PB4F12 (io), 170 IO131NB4F12 (io), 171 IO131PB4F12 (io), 172 IO130NB4F12 (io), 173 IO130PB4F12 (io)
part C pins: 2 VCCDA (power), 3 VCCA (power), 8 VCCIB7 (power), 14 VCCA (power), 20 VCCIB7 (power), 26 VCCIB7 (power), 32 VCCA (power), 38 VCCIB7 (power), 44 VCCDA (power), 50 VCCIB6 (power), 56 VCCA (power), 62 VCCIB6 (power), 68 VCCIB6 (power), 74 VCCA (power), 80 VCCIB6 (power), 87 VCCA (power), 90 VCCDA (power), 96 VCCIB5 (power), 102 VCCA (power), 108 VCCIB5 (power), 114 VCCA (power), 116 VCCDA (power), 117 VCCDA (power), 120 VCCIB5 (power), 132 VCCDA (power), 134 PRD (out), 135 PRC (out), 144 VCCIB4 (power), 148 VCCDA (power), 149 VCCDA (power), 150 VCCA (power), 156 VCCIB4 (power), 162 VCCA (power), 168 VCCIB4 (power), 175 VCCA (power), 178 VCCDA (power), 185 VCCIB3 (power), 191 VCCA (power), 197 VCCIB3 (power), 203 VCCIB3 (power), 209 VCCA (power), 215 VCCIB3 (power), 221 VCCDA (power), 227 VCCIB2 (power), 233 VCCA (power), 239 VCCIB2 (power), 245 VCCIB2 (power), 251 VCCA (power), 257 VCCIB2 (power), 263 VCCA (power), 266 VCCDA (power), 267 VPUMP (power), 273 VCCIB1 (power), 279 VCCA (power), 285 VCCIB1 (power), 291 VCCA (power), 293 VCCDA (power), 294 VCCDA (power), 297 VCCIB1 (power), 309 VCCDA (power), 311 PRB (out), 312 PRA (out), 321 VCCIB0 (power), 327 VCCDA (power), 328 VCCDA (power), 329 VCCA (power), 333 VCCIB0 (power), 339 VCCA (power), 344 VCCIB0 (power), 346 VCCDA (power), 347 TDO (hiz), 348 TDI (in), 349 TCK (in), 350 TMS (in), 351 ~{TRST} (in)
part D pins: 1 GND (power), 9 GND (power), 15 GND (power), 21 GND (power), 27 GND (power), 33 GND (power), 39 GND (power), 45 GND (power), 51 GND (power), 57 GND (power), 63 GND (power), 69 GND (power), 75 GND (power), 81 GND (power), 88 GND (power), 89 GND (power), 97 GND (power), 103 GND (power), 109 GND (power), 115 GND (power), 121 GND (power), 133 GND (power), 145 GND (power), 151 GND (power), 157 GND (power), 163 GND (power), 169 GND (power), 176 GND (power), 177 GND (power), 186 GND (power), 192 GND (power), 198 GND (power), 204 GND (power), 210 GND (power), 216 GND (power), 222 GND (power), 228 GND (power), 234 GND (power), 240 GND (power), 246 GND (power), 252 GND (power), 258 GND (power), 264 GND (power), 265 GND (power), 274 GND (power), 280 GND (power), 286 GND (power), 292 GND (power), 298 GND (power), 310 GND (power), 322 GND (power), 330 GND (power), 334 GND (power), 340 GND (power), 345 GND (power), 352 GND (power)
part E pins: 91 NC, 124 NC, 125 NC, 126 NC, 127 NC, 130 NC, 131 NC, 138 NC, 139 NC, 140 NC, 141 NC, 174 NC, 268 NC, 301 NC, 302 NC, 303 NC, 304 NC, 307 NC, 308 NC, 315 NC, 316 NC, 317 NC, 318 NC
part A text: Bank 0; Bank 3; Bank 1; Bank 2
part B text: Bank 4; Bank 7; Bank 5; Bank 6

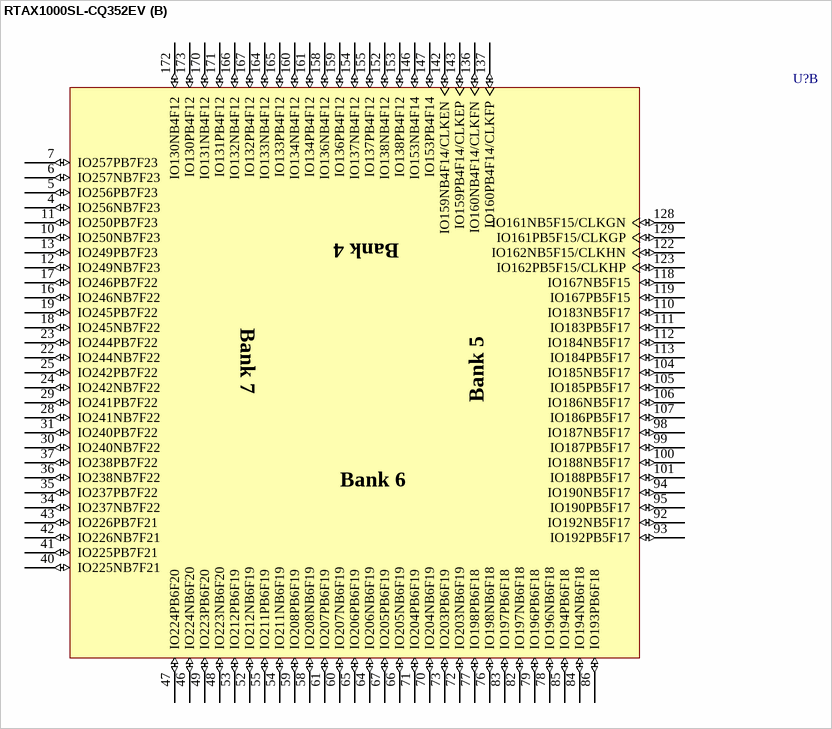
[diagram p118: symbol RTAX1000SL-CQ352EV]

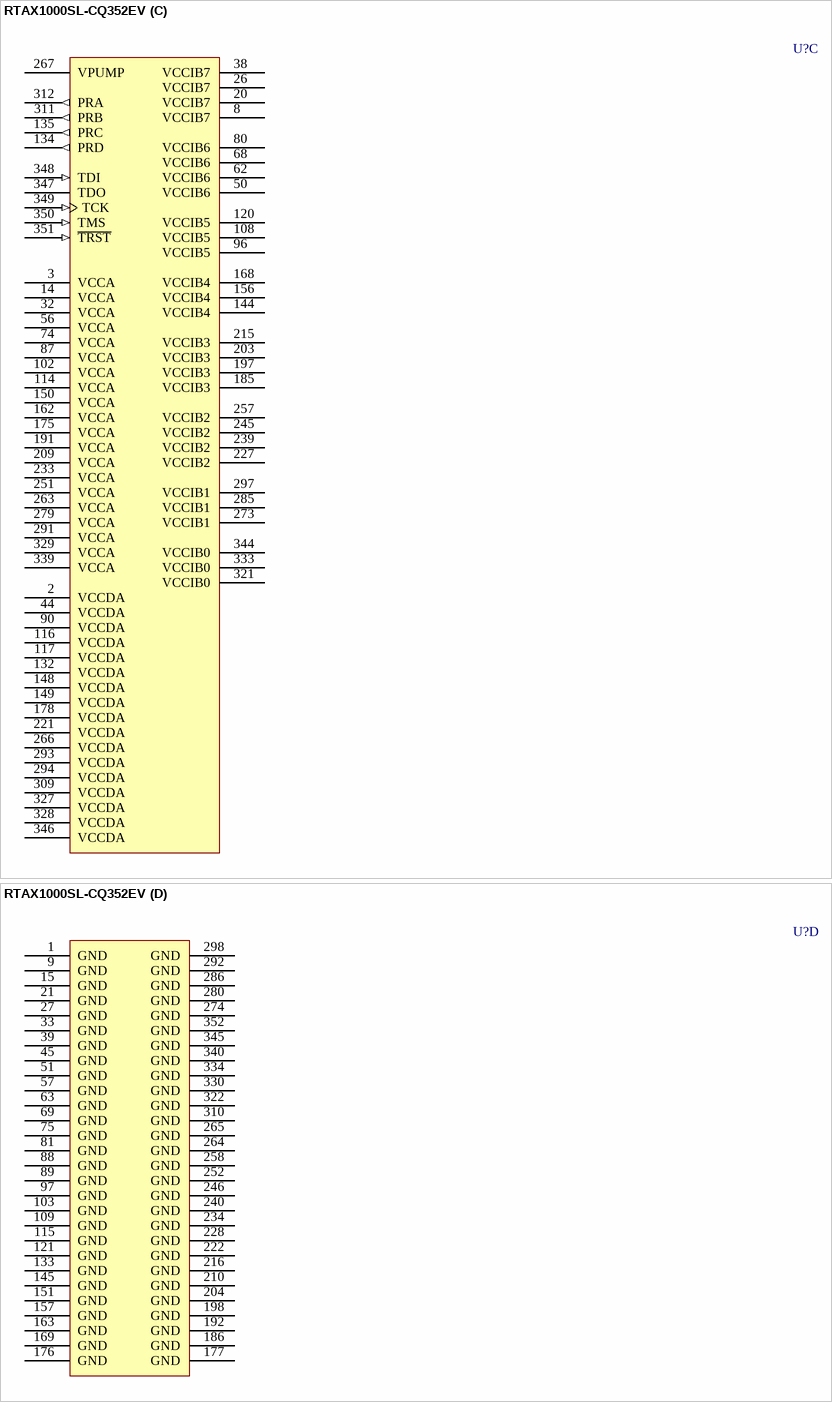
[diagram p119: symbol RTAX1000SL-CQ352EV]

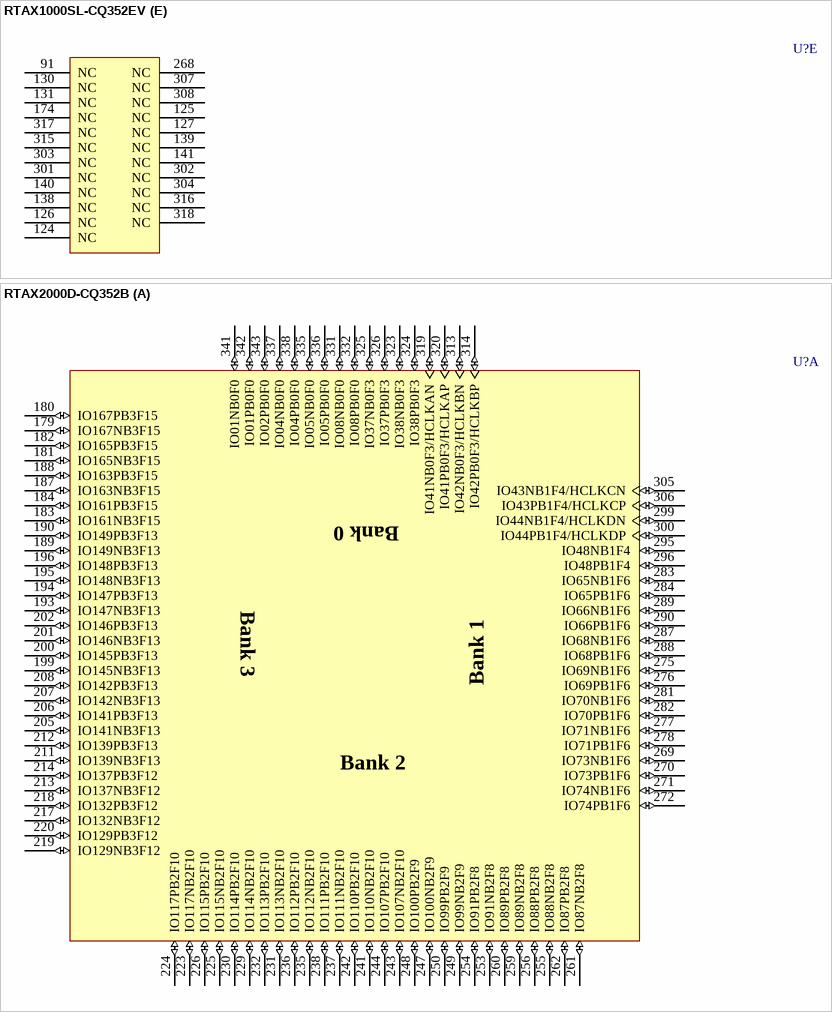
[diagram p120: symbols RTAX1000SL-CQ352EV to RTAX2000D-CQ352B]

## RTAX1000SL-CQ352EV
designator U?
RTAX-SL RadTolerant FPGA, 1 Million Equivalent System Gates, Low-Power, 352-Pin CQFP, Speed Grade Standard, Class V; DatasheetVersion: v5.4, May-2009; PackageVersion: ver11.2, Nov-2009; PackageReference: CQ352; PackageDescription: 352-Pin Ceramic Quad Flat Pack (CQFP), Cavity Up without Heat Sink; Code_JEDEC: MO-134-AE; ComponentLink1Description: Manufacturer URL; ComponentLink1URL: http://www.actel.com/; ComponentLink2Description: RTAX-S/SL RadTolerant Datasheet; ComponentLink2URL: http://www.actel.com/documents/RTAXS_DS.pdf; ComponentLink3Description: Package Mechanical Drawings; ComponentLink3URL: http://www.actel.com/documents/PckgMechDrwngs.pdf; ComponentLink4Description: RTAX-S/SL RadTolerant Documents; ComponentLink4URL: http://www.actel.com/products/milaero/rtaxs/docs.aspx
footprint CQ352_N (CQFP, 352-Leads, Body 48x48mm; Pitch 0.5mm, Gullwing Leadform, IPC Medium Density)
footprint CQ352_L (CQFP, 352-Leads, Body 48x48mm; Pitch 0.5mm, Gullwing Leadform, IPC High Density)
footprint CQ352_M (CQFP, 352-Leads, Body 48x48mm; Pitch 0.5mm, Gullwing Leadform, IPC Low Density)
part A pins: 179 IO128NB3F11 (io), 180 IO128PB3F11 (io), 181 IO127NB3F11 (io), 182 IO127PB3F11 (io), 183 IO124NB3F11 (io), 184 IO124PB3F11 (io), 187 IO125NB3F11 (io), 188 IO125PB3F11 (io), 189 IO117NB3F10 (io), 190 IO117PB3F10 (io), 193 IO116NB3F10 (io), 194 IO116PB3F10 (io), 195 IO115NB3F10 (io), 196 IO115PB3F10 (io), 199 IO112NB3F10 (io), 200 IO112PB3F10 (io), 201 IO113NB3F10 (io), 202 IO113PB3F10 (io), 205 IO111NB3F10 (io), 206 IO111PB3F10 (io), 207 IO109NB3F10 (io), 208 IO109PB3F10 (io), 211 IO108NB3F10 (io), 212 IO108PB3F10 (io), 213 IO99NB3F9 (io), 214 IO99PB3F9 (io), 217 IO96NB3F9 (io), 218 IO96PB3F9 (io), 219 IO97NB3F9 (io), 220 IO97PB3F9 (io), 223 IO95NB2F8 (io), 224 IO95PB2F8 (io), 225 IO94NB2F8 (io), 226 IO94PB2F8 (io), 229 IO83NB2F7 (io), 230 IO83PB2F7 (io), 231 IO82NB2F7 (io), 232 IO82PB2F7 (io), 235 IO79NB2F7 (io), 236 IO79PB2F7 (io), 237 IO78NB2F7 (io), 238 IO78PB2F7 (io), 241 IO77NB2F7 (io), 242 IO77PB2F7 (io), 243 IO76NB2F7 (io), 244 IO76PB2F7 (io), 247 IO75NB2F7 (io), 248 IO75PB2F7 (io), 249 IO74NB2F7 (io), 250 IO74PB2F7 (io), 253 IO69NB2F6 (io), 254 IO69PB2F6 (io), 255 IO68NB2F6 (io), 256 IO68PB2F6 (io), 259 IO64NB2F6 (io), 260 IO64PB2F6 (io), 261 IO67NB2F6 (io), 262 IO67PB2F6 (io), 269 IO63NB1F5 (io), 270 IO63PB1F5 (io), 271 IO61NB1F5 (io), 272 IO61PB1F5 (io), 275 IO60NB1F5 (io), 276 IO60PB1F5 (io), 277 IO59NB1F5 (io), 278 IO59PB1F5 (io), 281 IO56NB1F5 (io), 282 IO56PB1F5 (io), 283 IO57NB1F5 (io), 284 IO57PB1F5 (io), 287 IO54NB1F5 (io), 288 IO54PB1F5 (io), 289 IO55NB1F5 (io), 290 IO55PB1F5 (io), 295 IO38NB1F3 (io), 296 IO38PB1F3 (io), 299 IO33NB1F3/HCLKDN (io), 300 IO33PB1F3/HCLKDP (io), 305 IO32NB1F3/HCLKCN (io), 306 IO32PB1F3/HCLKCP (io), 313 IO31NB0F2/HCLKBN (io), 314 IO31PB0F2/HCLKBP (io), 319 IO30NB0F2/HCLKAN (io), 320 IO30PB0F2/HCLKAP (io), 323 IO25NB0F2 (io), 324 IO25PB0F2 (io), 325 IO24NB0F2 (io), 326 IO24PB0F2 (io), 331 IO08NB0F0 (io), 332 IO08PB0F0 (io), 335 IO09NB0F0 (io), 336 IO09PB0F0 (io), 337 IO04NB0F0 (io), 338 IO04PB0F0 (io), 341 IO02NB0F0 (io), 342 IO02PB0F0 (io), 343 IO03PB0F0 (io)
part B pins: 4 IO256NB7F23 (io), 5 IO256PB7F23 (io), 6 IO257NB7F23 (io), 7 IO257PB7F23 (io), 10 IO250NB7F23 (io), 11 IO250PB7F23 (io), 12 IO249NB7F23 (io), 13 IO249PB7F23 (io), 16 IO246NB7F22 (io), 17 IO246PB7F22 (io), 18 IO245NB7F22 (io), 19 IO245PB7F22 (io), 22 IO244NB7F22 (io), 23 IO244PB7F22 (io), 24 IO242NB7F22 (io), 25 IO242PB7F22 (io), 28 IO241NB7F22 (io), 29 IO241PB7F22 (io), 30 IO240NB7F22 (io), 31 IO240PB7F22 (io), 34 IO237NB7F22 (io), 35 IO237PB7F22 (io), 36 IO238NB7F22 (io), 37 IO238PB7F22 (io), 40 IO225NB7F21 (io), 41 IO225PB7F21 (io), 42 IO226NB7F21 (io), 43 IO226PB7F21 (io), 46 IO224NB6F20 (io), 47 IO224PB6F20 (io), 48 IO223NB6F20 (io), 49 IO223PB6F20 (io), 52 IO212NB6F19 (io), 53 IO212PB6F19 (io), 54 IO211NB6F19 (io), 55 IO211PB6F19 (io), 58 IO208NB6F19 (io), 59 IO208PB6F19 (io), 60 IO207NB6F19 (io), 61 IO207PB6F19 (io), 64 IO206NB6F19 (io), 65 IO206PB6F19 (io), 66 IO205NB6F19 (io), 67 IO205PB6F19 (io), 70 IO204NB6F19 (io), 71 IO204PB6F19 (io), 72 IO203NB6F19 (io), 73 IO203PB6F19 (io), 76 IO198NB6F18 (io), 77 IO198PB6F18 (io), 78 IO196NB6F18 (io), 79 IO196PB6F18 (io), 82 IO197NB6F18 (io), 83 IO197PB6F18 (io), 84 IO194NB6F18 (io), 85 IO194PB6F18 (io), 86 IO193PB6F18 (io), 92 IO192NB5F17 (io), 93 IO192PB5F17 (io), 94 IO190NB5F17 (io), 95 IO190PB5F17 (io), 98 IO187NB5F17 (io), 99 IO187PB5F17 (io), 100 IO188NB5F17 (io), 101 IO188PB5F17 (io), 104 IO185NB5F17 (io), 105 IO185PB5F17 (io), 106 IO186NB5F17 (io), 107 IO186PB5F17 (io), 110 IO183NB5F17 (io), 111 IO183PB5F17 (io), 112 IO184NB5F17 (io), 113 IO184PB5F17 (io), 118 IO167NB5F15 (io), 119 IO167PB5F15 (io), 122 IO162NB5F15/CLKHN (io), 123 IO162PB5F15/CLKHP (io), 128 IO161NB5F15/CLKGN (io), 129 IO161PB5F15/CLKGP (io), 136 IO160NB4F14/CLKFN (io), 137 IO160PB4F14/CLKFP (io), 142 IO159NB4F14/CLKEN (io), 143 IO159PB4F14/CLKEP (io), 146 IO153NB4F14 (io), 147 IO153PB4F14 (io), 152 IO138NB4F12 (io), 153 IO138PB4F12 (io), 154 IO137NB4F12 (io), 155 IO137PB4F12 (io), 158 IO136NB4F12 (io), 159 IO136PB4F12 (io), 160 IO134NB4F12 (io), 161 IO134PB4F12 (io), 164 IO133NB4F12 (io), 165 IO133PB4F12 (io), 166 IO132NB4F12 (io), 167 IO132PB4F12 (io), 170 IO131NB4F12 (io), 171 IO131PB4F12 (io), 172 IO130NB4F12 (io), 173 IO130PB4F12 (io)
part C pins: 2 VCCDA (power), 3 VCCA (power), 8 VCCIB7 (power), 14 VCCA (power), 20 VCCIB7 (power), 26 VCCIB7 (power), 32 VCCA (power), 38 VCCIB7 (power), 44 VCCDA (power), 50 VCCIB6 (power), 56 VCCA (power), 62 VCCIB6 (power), 68 VCCIB6 (power), 74 VCCA (power), 80 VCCIB6 (power), 87 VCCA (power), 90 VCCDA (power), 96 VCCIB5 (power), 102 VCCA (power), 108 VCCIB5 (power), 114 VCCA (power), 116 VCCDA (power), 117 VCCDA (power), 120 VCCIB5 (power), 132 VCCDA (power), 134 PRD (out), 135 PRC (out), 144 VCCIB4 (power), 148 VCCDA (power), 149 VCCDA (power), 150 VCCA (power), 156 VCCIB4 (power), 162 VCCA (power), 168 VCCIB4 (power), 175 VCCA (power), 178 VCCDA (power), 185 VCCIB3 (power), 191 VCCA (power), 197 VCCIB3 (power), 203 VCCIB3 (power), 209 VCCA (power), 215 VCCIB3 (power), 221 VCCDA (power), 227 VCCIB2 (power), 233 VCCA (power), 239 VCCIB2 (power), 245 VCCIB2 (power), 251 VCCA (power), 257 VCCIB2 (power), 263 VCCA (power), 266 VCCDA (power), 267 VPUMP (power), 273 VCCIB1 (power), 279 VCCA (power), 285 VCCIB1 (power), 291 VCCA (power), 293 VCCDA (power), 294 VCCDA (power), 297 VCCIB1 (power), 309 VCCDA (power), 311 PRB (out), 312 PRA (out), 321 VCCIB0 (power), 327 VCCDA (power), 328 VCCDA (power), 329 VCCA (power), 333 VCCIB0 (power), 339 VCCA (power), 344 VCCIB0 (power), 346 VCCDA (power), 347 TDO (hiz), 348 TDI (in), 349 TCK (in), 350 TMS (in), 351 ~{TRST} (in)
part D pins: 1 GND (power), 9 GND (power), 15 GND (power), 21 GND (power), 27 GND (power), 33 GND (power), 39 GND (power), 45 GND (power), 51 GND (power), 57 GND (power), 63 GND (power), 69 GND (power), 75 GND (power), 81 GND (power), 88 GND (power), 89 GND (power), 97 GND (power), 103 GND (power), 109 GND (power), 115 GND (power), 121 GND (power), 133 GND (power), 145 GND (power), 151 GND (power), 157 GND (power), 163 GND (power), 169 GND (power), 176 GND (power), 177 GND (power), 186 GND (power), 192 GND (power), 198 GND (power), 204 GND (power), 210 GND (power), 216 GND (power), 222 GND (power), 228 GND (power), 234 GND (power), 240 GND (power), 246 GND (power), 252 GND (power), 258 GND (power), 264 GND (power), 265 GND (power), 274 GND (power), 280 GND (power), 286 GND (power), 292 GND (power), 298 GND (power), 310 GND (power), 322 GND (power), 330 GND (power), 334 GND (power), 340 GND (power), 345 GND (power), 352 GND (power)
part E pins: 91 NC, 124 NC, 125 NC, 126 NC, 127 NC, 130 NC, 131 NC, 138 NC, 139 NC, 140 NC, 141 NC, 174 NC, 268 NC, 301 NC, 302 NC, 303 NC, 304 NC, 307 NC, 308 NC, 315 NC, 316 NC, 317 NC, 318 NC
part A text: Bank 0; Bank 3; Bank 1; Bank 2
part B text: Bank 4; Bank 7; Bank 5; Bank 6

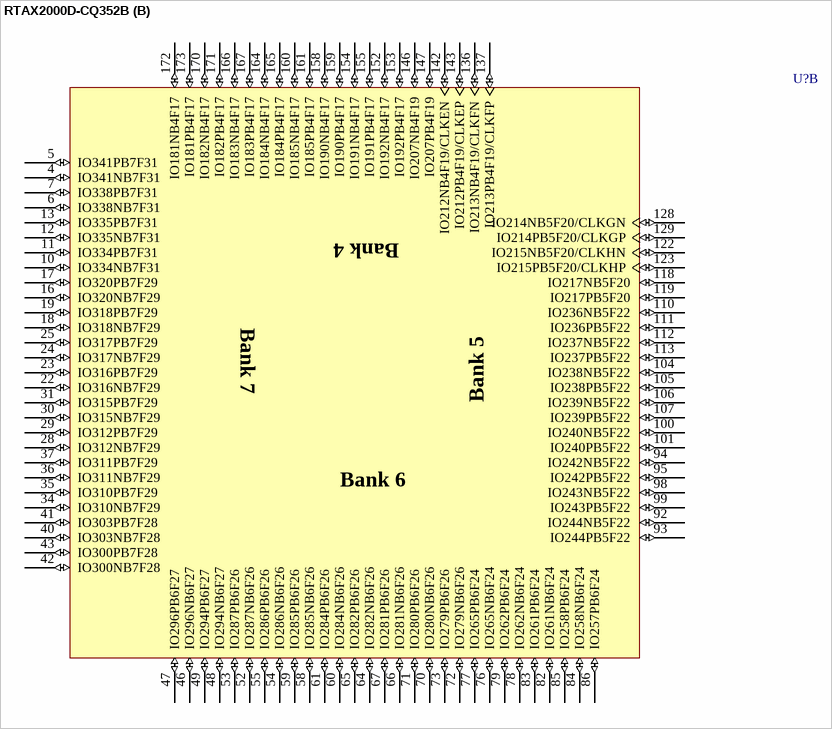
[diagram p121: symbol RTAX2000D-CQ352B]

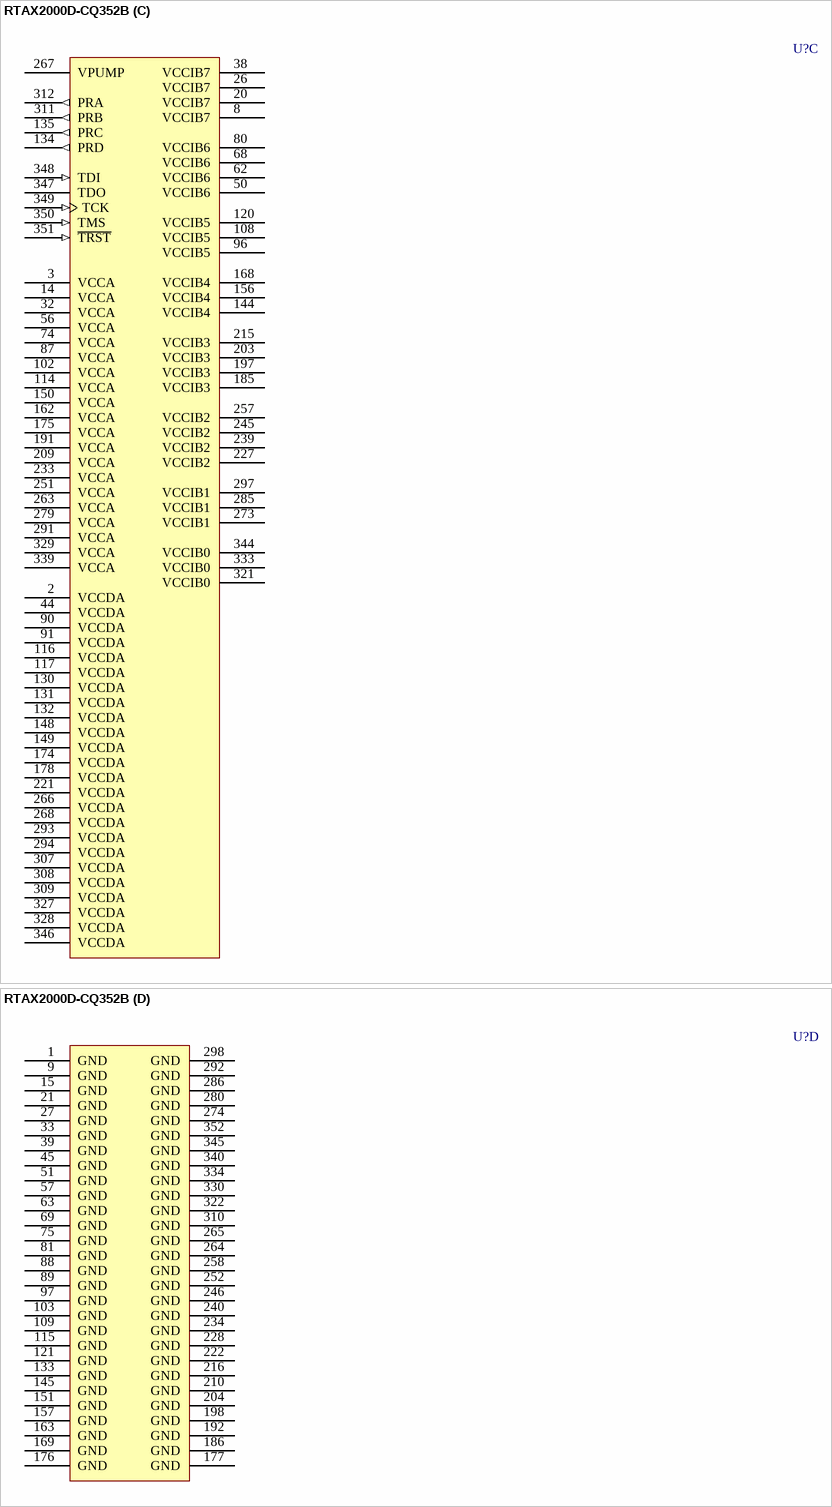
[diagram p122: symbol RTAX2000D-CQ352B]

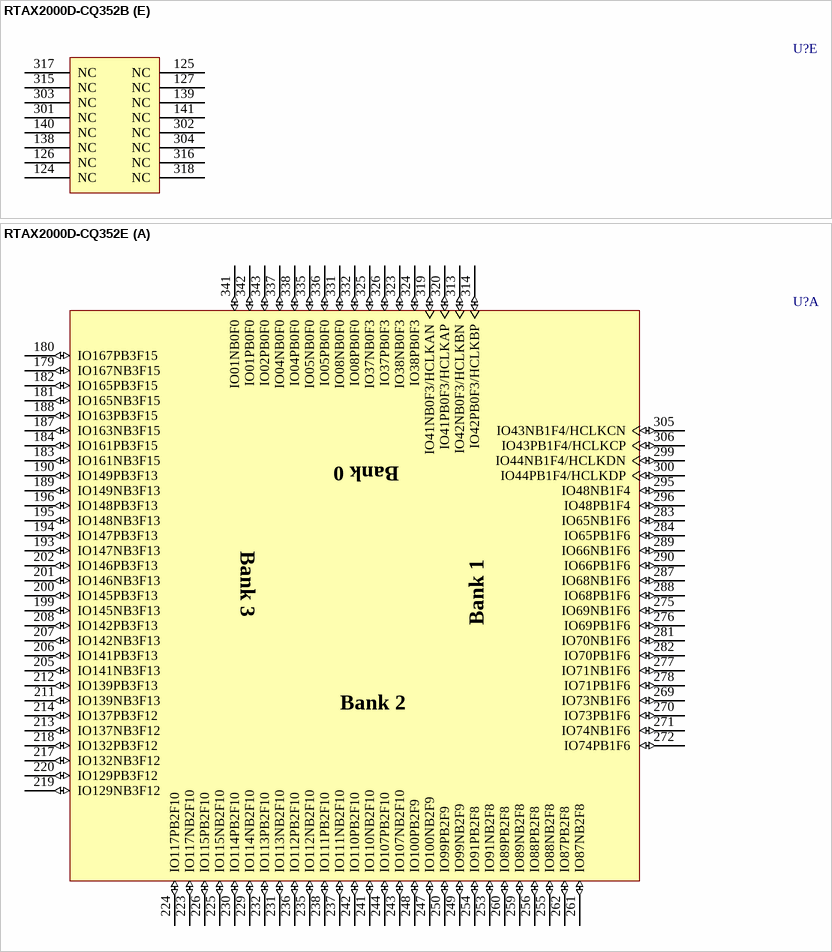
[diagram p123: symbols RTAX2000D-CQ352B to RTAX2000D-CQ352E]

## RTAX2000D-CQ352B
designator U?
RTAX-DSP RadTolerant FPGA, 2 Million Equivalent System Gates, 352-Pin CQFP, Standard Speed Grade, MIL-STD-883 Class B; DatasheetVersion: v0.2, Nov-2009; PackageVersion: ver11.2, Nov-2009; PackageReference: CQ352; PackageDescription: 352-Pin Ceramic Quad Flat Pack (CQFP), Cavity Up without Heat Sink; Code_JEDEC: MO-134-AE; ComponentLink1Description: Manufacturer URL; ComponentLink1URL: http://www.actel.com/; ComponentLink2Description: RTAX-S/SL RadTolerant Datasheet; ComponentLink2URL: http://www.actel.com/documents/RTAXS_DS.pdf; ComponentLink3Description: Package Mechanical Drawings; ComponentLink3URL: http://www.actel.com/documents/PckgMechDrwngs.pdf; ComponentLink4Description: RTAX-DSP Documents; ComponentLink4URL: http://www.actel.com/products/milaero/rtaxdsp/docs.aspx
footprint CQ352_N (CQFP, 352-Leads, Body 48x48mm; Pitch 0.5mm, Gullwing Leadform, IPC Medium Density)
footprint CQ352_L (CQFP, 352-Leads, Body 48x48mm; Pitch 0.5mm, Gullwing Leadform, IPC High Density)
footprint CQ352_M (CQFP, 352-Leads, Body 48x48mm; Pitch 0.5mm, Gullwing Leadform, IPC Low Density)
part A pins: 179 IO167NB3F15 (io), 180 IO167PB3F15 (io), 181 IO165NB3F15 (io), 182 IO165PB3F15 (io), 183 IO161NB3F15 (io), 184 IO161PB3F15 (io), 187 IO163NB3F15 (io), 188 IO163PB3F15 (io), 189 IO149NB3F13 (io), 190 IO149PB3F13 (io), 193 IO147NB3F13 (io), 194 IO147PB3F13 (io), 195 IO148NB3F13 (io), 196 IO148PB3F13 (io), 199 IO145NB3F13 (io), 200 IO145PB3F13 (io), 201 IO146NB3F13 (io), 202 IO146PB3F13 (io), 205 IO141NB3F13 (io), 206 IO141PB3F13 (io), 207 IO142NB3F13 (io), 208 IO142PB3F13 (io), 211 IO139NB3F13 (io), 212 IO139PB3F13 (io), 213 IO137NB3F12 (io), 214 IO137PB3F12 (io), 217 IO132NB3F12 (io), 218 IO132PB3F12 (io), 219 IO129NB3F12 (io), 220 IO129PB3F12 (io), 223 IO117NB2F10 (io), 224 IO117PB2F10 (io), 225 IO115NB2F10 (io), 226 IO115PB2F10 (io), 229 IO114NB2F10 (io), 230 IO114PB2F10 (io), 231 IO113NB2F10 (io), 232 IO113PB2F10 (io), 235 IO112NB2F10 (io), 236 IO112PB2F10 (io), 237 IO111NB2F10 (io), 238 IO111PB2F10 (io), 241 IO110NB2F10 (io), 242 IO110PB2F10 (io), 243 IO107NB2F10 (io), 244 IO107PB2F10 (io), 247 IO100NB2F9 (io), 248 IO100PB2F9 (io), 249 IO99NB2F9 (io), 250 IO99PB2F9 (io), 253 IO91NB2F8 (io), 254 IO91PB2F8 (io), 255 IO88NB2F8 (io), 256 IO88PB2F8 (io), 259 IO89NB2F8 (io), 260 IO89PB2F8 (io), 261 IO87NB2F8 (io), 262 IO87PB2F8 (io), 269 IO73NB1F6 (io), 270 IO73PB1F6 (io), 271 IO74NB1F6 (io), 272 IO74PB1F6 (io), 275 IO69NB1F6 (io), 276 IO69PB1F6 (io), 277 IO71NB1F6 (io), 278 IO71PB1F6 (io), 281 IO70NB1F6 (io), 282 IO70PB1F6 (io), 283 IO65NB1F6 (io), 284 IO65PB1F6 (io), 287 IO68NB1F6 (io), 288 IO68PB1F6 (io), 289 IO66NB1F6 (io), 290 IO66PB1F6 (io), 295 IO48NB1F4 (io), 296 IO48PB1F4 (io), 299 IO44NB1F4/HCLKDN (io), 300 IO44PB1F4/HCLKDP (io), 305 IO43NB1F4/HCLKCN (io), 306 IO43PB1F4/HCLKCP (io), 313 IO42NB0F3/HCLKBN (io), 314 IO42PB0F3/HCLKBP (io), 319 IO41NB0F3/HCLKAN (io), 320 IO41PB0F3/HCLKAP (io), 323 IO38NB0F3 (io), 324 IO38PB0F3 (io), 325 IO37NB0F3 (io), 326 IO37PB0F3 (io), 331 IO08NB0F0 (io), 332 IO08PB0F0 (io), 335 IO05NB0F0 (io), 336 IO05PB0F0 (io), 337 IO04NB0F0 (io), 338 IO04PB0F0 (io), 341 IO01NB0F0 (io), 342 IO01PB0F0 (io), 343 IO02PB0F0 (io)
part B pins: 4 IO341NB7F31 (io), 5 IO341PB7F31 (io), 6 IO338NB7F31 (io), 7 IO338PB7F31 (io), 10 IO334NB7F31 (io), 11 IO334PB7F31 (io), 12 IO335NB7F31 (io), 13 IO335PB7F31 (io), 16 IO320NB7F29 (io), 17 IO320PB7F29 (io), 18 IO318NB7F29 (io), 19 IO318PB7F29 (io), 22 IO316NB7F29 (io), 23 IO316PB7F29 (io), 24 IO317NB7F29 (io), 25 IO317PB7F29 (io), 28 IO312NB7F29 (io), 29 IO312PB7F29 (io), 30 IO315NB7F29 (io), 31 IO315PB7F29 (io), 34 IO310NB7F29 (io), 35 IO310PB7F29 (io), 36 IO311NB7F29 (io), 37 IO311PB7F29 (io), 40 IO303NB7F28 (io), 41 IO303PB7F28 (io), 42 IO300NB7F28 (io), 43 IO300PB7F28 (io), 46 IO296NB6F27 (io), 47 IO296PB6F27 (io), 48 IO294NB6F27 (io), 49 IO294PB6F27 (io), 52 IO287NB6F26 (io), 53 IO287PB6F26 (io), 54 IO286NB6F26 (io), 55 IO286PB6F26 (io), 58 IO285NB6F26 (io), 59 IO285PB6F26 (io), 60 IO284NB6F26 (io), 61 IO284PB6F26 (io), 64 IO282NB6F26 (io), 65 IO282PB6F26 (io), 66 IO281NB6F26 (io), 67 IO281PB6F26 (io), 70 IO280NB6F26 (io), 71 IO280PB6F26 (io), 72 IO279NB6F26 (io), 73 IO279PB6F26 (io), 76 IO265NB6F24 (io), 77 IO265PB6F24 (io), 78 IO262NB6F24 (io), 79 IO262PB6F24 (io), 82 IO261NB6F24 (io), 83 IO261PB6F24 (io), 84 IO258NB6F24 (io), 85 IO258PB6F24 (io), 86 IO257PB6F24 (io), 92 IO244NB5F22 (io), 93 IO244PB5F22 (io), 94 IO242NB5F22 (io), 95 IO242PB5F22 (io), 98 IO243NB5F22 (io), 99 IO243PB5F22 (io), 100 IO240NB5F22 (io), 101 IO240PB5F22 (io), 104 IO238NB5F22 (io), 105 IO238PB5F22 (io), 106 IO239NB5F22 (io), 107 IO239PB5F22 (io), 110 IO236NB5F22 (io), 111 IO236PB5F22 (io), 112 IO237NB5F22 (io), 113 IO237PB5F22 (io), 118 IO217NB5F20 (io), 119 IO217PB5F20 (io), 122 IO215NB5F20/CLKHN (io), 123 IO215PB5F20/CLKHP (io), 128 IO214NB5F20/CLKGN (io), 129 IO214PB5F20/CLKGP (io), 136 IO213NB4F19/CLKFN (io), 137 IO213PB4F19/CLKFP (io), 142 IO212NB4F19/CLKEN (io), 143 IO212PB4F19/CLKEP (io), 146 IO207NB4F19 (io), 147 IO207PB4F19 (io), 152 IO192NB4F17 (io), 153 IO192PB4F17 (io), 154 IO191NB4F17 (io), 155 IO191PB4F17 (io), 158 IO190NB4F17 (io), 159 IO190PB4F17 (io), 160 IO185NB4F17 (io), 161 IO185PB4F17 (io), 164 IO184NB4F17 (io), 165 IO184PB4F17 (io), 166 IO183NB4F17 (io), 167 IO183PB4F17 (io), 170 IO182NB4F17 (io), 171 IO182PB4F17 (io), 172 IO181NB4F17 (io), 173 IO181PB4F17 (io)
part C pins: 2 VCCDA (power), 3 VCCA (power), 8 VCCIB7 (power), 14 VCCA (power), 20 VCCIB7 (power), 26 VCCIB7 (power), 32 VCCA (power), 38 VCCIB7 (power), 44 VCCDA (power), 50 VCCIB6 (power), 56 VCCA (power), 62 VCCIB6 (power), 68 VCCIB6 (power), 74 VCCA (power), 80 VCCIB6 (power), 87 VCCA (power), 90 VCCDA (power), 91 VCCDA (power), 96 VCCIB5 (power), 102 VCCA (power), 108 VCCIB5 (power), 114 VCCA (power), 116 VCCDA (power), 117 VCCDA (power), 120 VCCIB5 (power), 130 VCCDA (power), 131 VCCDA (power), 132 VCCDA (power), 134 PRD (out), 135 PRC (out), 144 VCCIB4 (power), 148 VCCDA (power), 149 VCCDA (power), 150 VCCA (power), 156 VCCIB4 (power), 162 VCCA (power), 168 VCCIB4 (power), 174 VCCDA (power), 175 VCCA (power), 178 VCCDA (power), 185 VCCIB3 (power), 191 VCCA (power), 197 VCCIB3 (power), 203 VCCIB3 (power), 209 VCCA (power), 215 VCCIB3 (power), 221 VCCDA (power), 227 VCCIB2 (power), 233 VCCA (power), 239 VCCIB2 (power), 245 VCCIB2 (power), 251 VCCA (power), 257 VCCIB2 (power), 263 VCCA (power), 266 VCCDA (power), 267 VPUMP (power), 268 VCCDA (power), 273 VCCIB1 (power), 279 VCCA (power), 285 VCCIB1 (power), 291 VCCA (power), 293 VCCDA (power), 294 VCCDA (power), 297 VCCIB1 (power), 307 VCCDA (power), 308 VCCDA (power), 309 VCCDA (power), 311 PRB (out), 312 PRA (out), 321 VCCIB0 (power), 327 VCCDA (power), 328 VCCDA (power), 329 VCCA (power), 333 VCCIB0 (power), 339 VCCA (power), 344 VCCIB0 (power), 346 VCCDA (power), 347 TDO (hiz), 348 TDI (in), 349 TCK (in), 350 TMS (in), 351 ~{TRST} (in)
part D pins: 1 GND (power), 9 GND (power), 15 GND (power), 21 GND (power), 27 GND (power), 33 GND (power), 39 GND (power), 45 GND (power), 51 GND (power), 57 GND (power), 63 GND (power), 69 GND (power), 75 GND (power), 81 GND (power), 88 GND (power), 89 GND (power), 97 GND (power), 103 GND (power), 109 GND (power), 115 GND (power), 121 GND (power), 133 GND (power), 145 GND (power), 151 GND (power), 157 GND (power), 163 GND (power), 169 GND (power), 176 GND (power), 177 GND (power), 186 GND (power), 192 GND (power), 198 GND (power), 204 GND (power), 210 GND (power), 216 GND (power), 222 GND (power), 228 GND (power), 234 GND (power), 240 GND (power), 246 GND (power), 252 GND (power), 258 GND (power), 264 GND (power), 265 GND (power), 274 GND (power), 280 GND (power), 286 GND (power), 292 GND (power), 298 GND (power), 310 GND (power), 322 GND (power), 330 GND (power), 334 GND (power), 340 GND (power), 345 GND (power), 352 GND (power)
part E pins: 124 NC, 125 NC, 126 NC, 127 NC, 138 NC, 139 NC, 140 NC, 141 NC, 301 NC, 302 NC, 303 NC, 304 NC, 315 NC, 316 NC, 317 NC, 318 NC
part A text: Bank 0; Bank 3; Bank 1; Bank 2
part B text: Bank 4; Bank 7; Bank 5; Bank 6

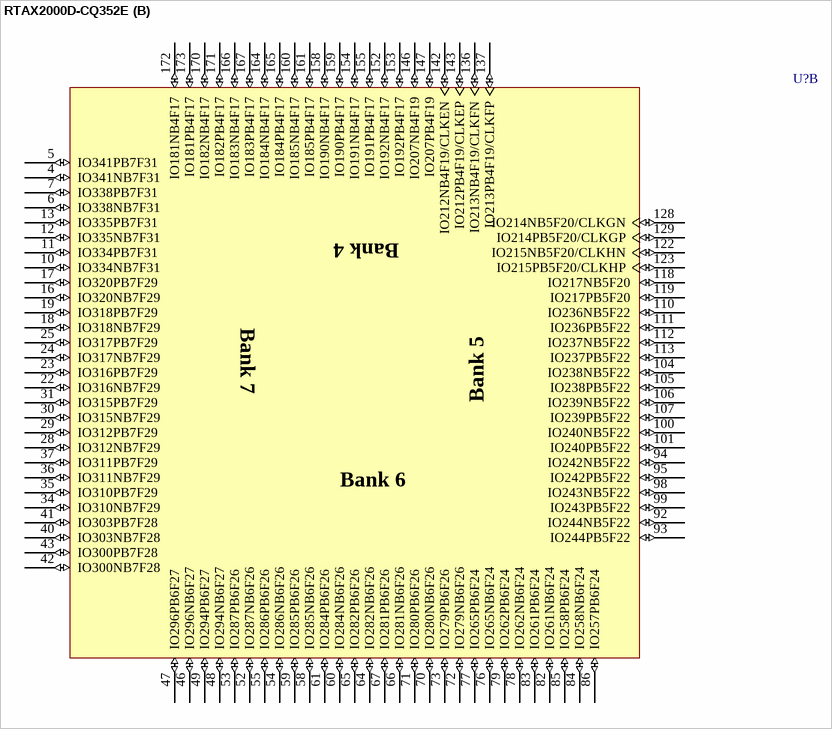
[diagram p124: symbol RTAX2000D-CQ352E]

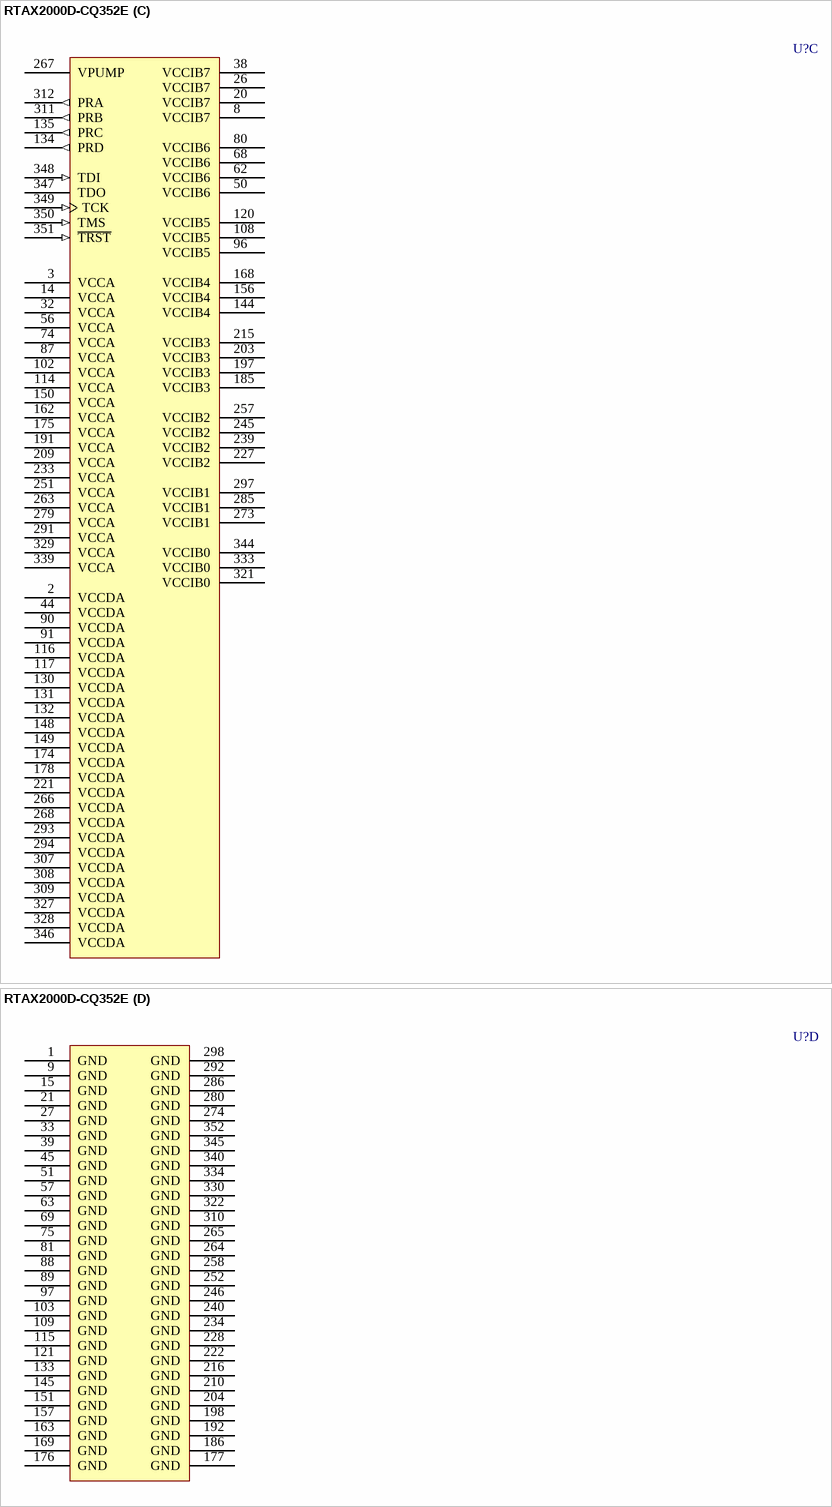
[diagram p125: symbol RTAX2000D-CQ352E]

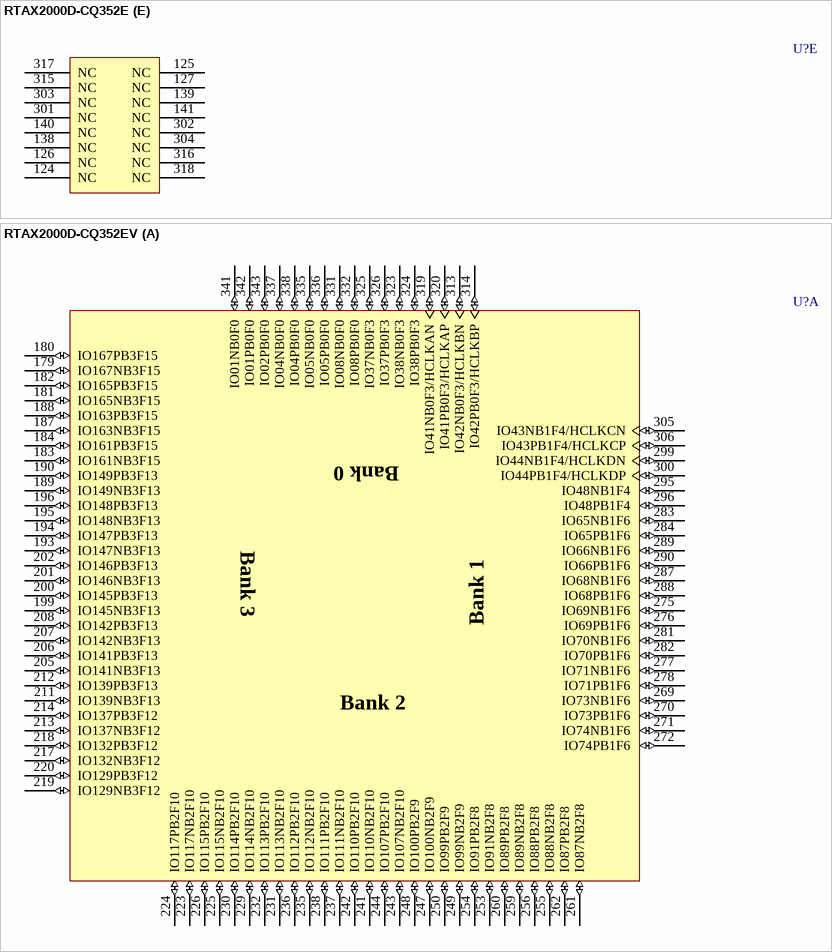
[diagram p126: symbols RTAX2000D-CQ352E to RTAX2000D-CQ352EV]